# Altium schematic symbol library wr_switch.SCHLIB: 234 symbols (part 1 of 4)
Pins are listed as number, name and electrical type; pins without a type are passive.

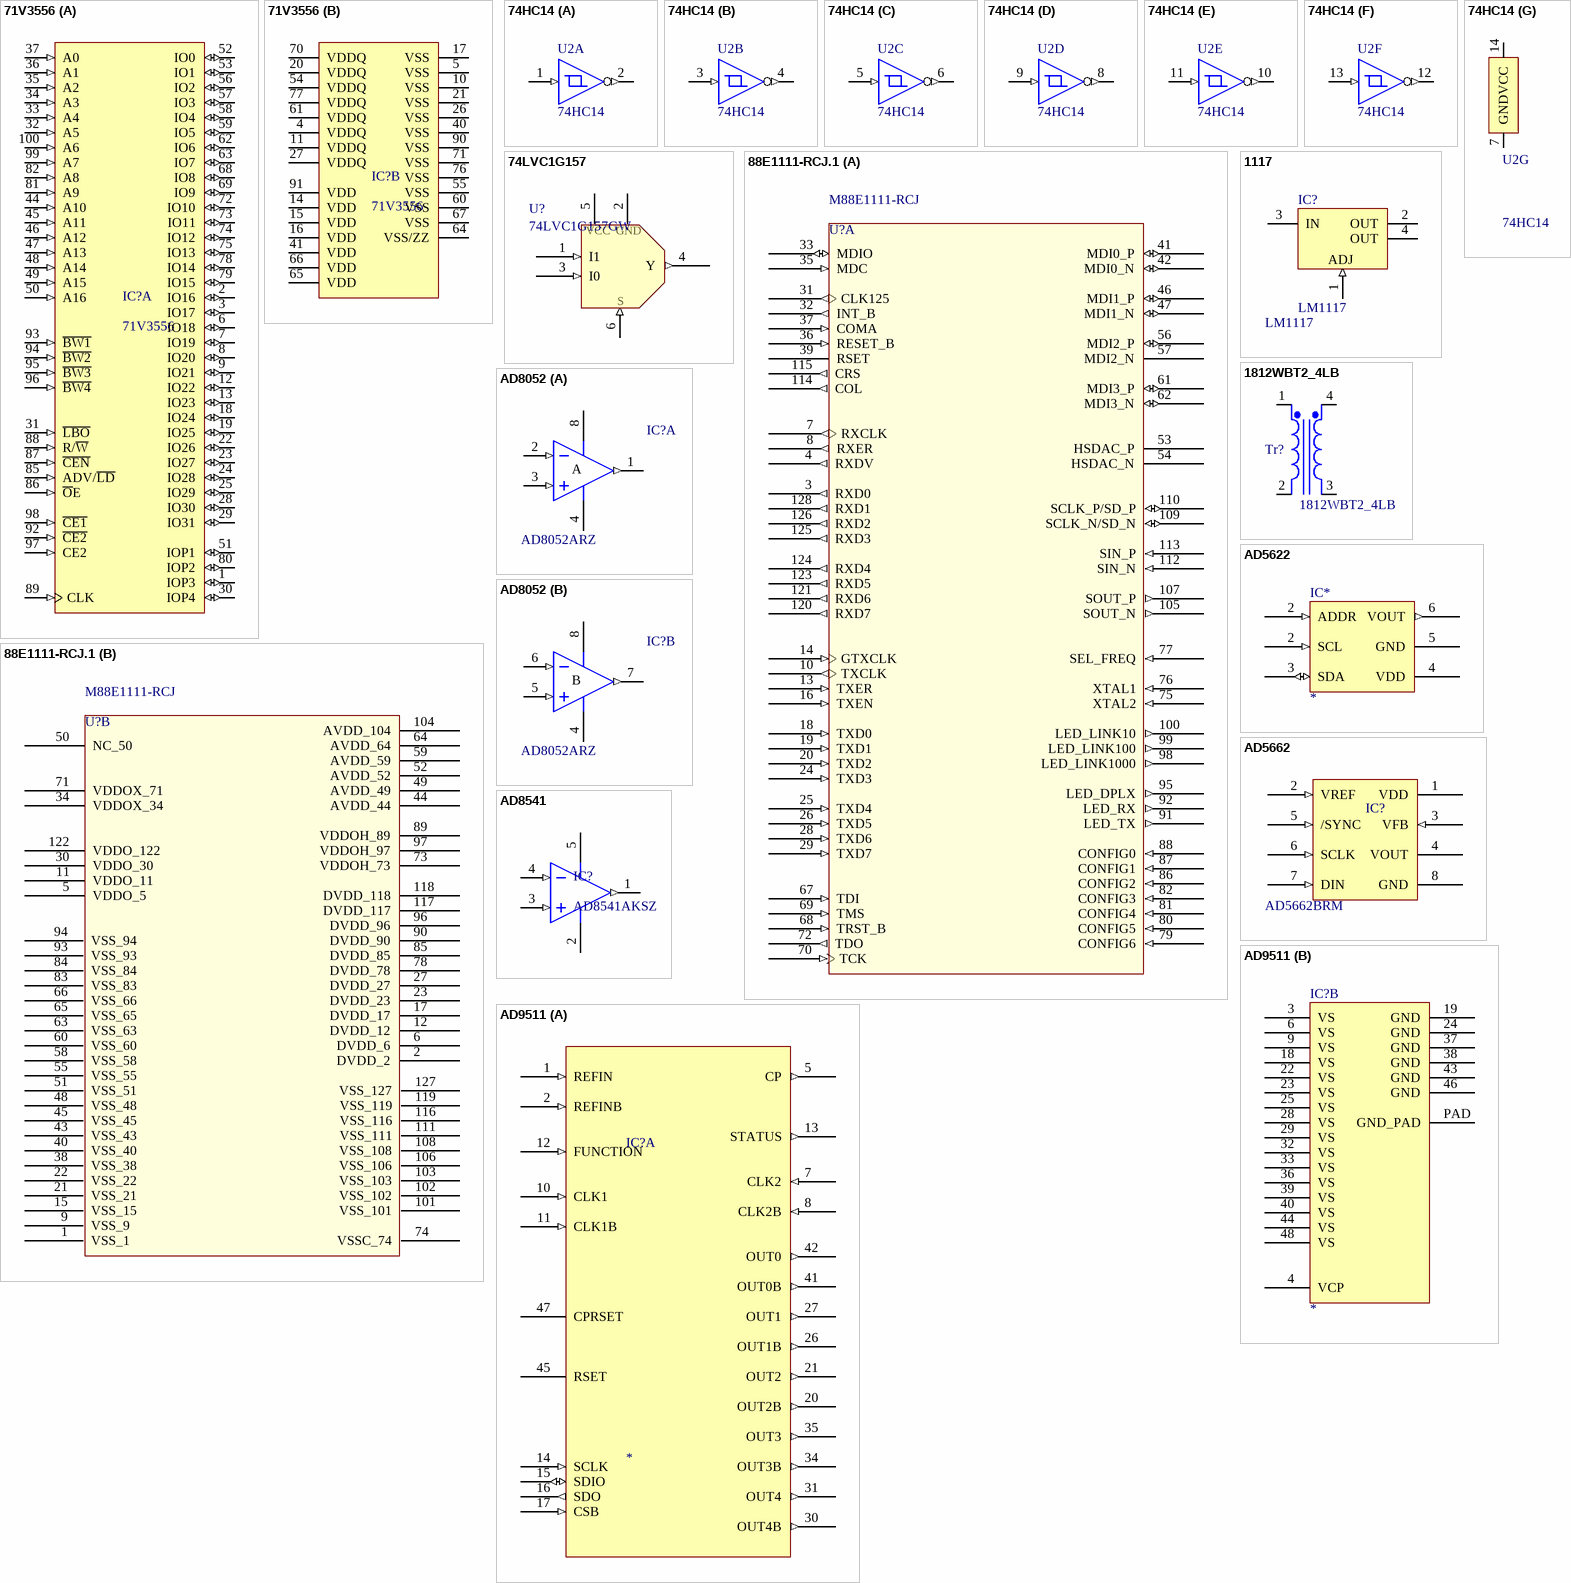
[diagram p0: symbols 71V3556 to AD9511]

## 71V3556
designator IC?
4.5 Mbit ZBT SRAM; RefId: 800-1843-1-ND; Value: IDT71V3556S166PFG8; Supplier: Digikey
footprint TQFP100A101
part A pins: 1 IOP3 (io), 2 IO16 (io), 3 IO17 (io), 6 IO18 (io), 7 IO19 (io), 8 IO20 (io), 9 IO21 (io), 12 IO22 (io), 13 IO23 (io), 18 IO24 (io), 19 IO25 (io), 22 IO26 (io), 23 IO27 (io), 24 IO28 (io), 25 IO29 (io), 28 IO30 (io), 29 IO31 (io), 30 IOP4 (io), 31 ~{LBO} (in), 32 A5 (in), 33 A4 (in), 34 A3 (in), 35 A2 (in), 36 A1 (in), 37 A0 (in), 44 A10 (in), 45 A11 (in), 46 A12 (in), 47 A13 (in), 48 A14 (in), 49 A15 (in), 50 A16 (in), 51 IOP1 (io), 52 IO0 (io), 53 IO1 (io), 56 IO2 (io), 57 IO3 (io), 58 IO4 (io), 59 IO5 (io), 62 IO6 (io), 63 IO7 (io), 68 IO8 (io), 69 IO9 (io), 72 IO10 (io), 73 IO11 (io), 74 IO12 (io), 75 IO13 (io), 78 IO14 (io), 79 IO15 (io), 80 IOP2 (io), 81 A9 (in), 82 A8 (in), 85 ADV/~{LD} (in), 86 ~{O}E (in), 87 ~{CEN} (in), 88 R/~{W} (in), 89 CLK (in), 92 ~{CE2} (in), 93 ~{BW1} (in), 94 ~{BW2} (in), 95 ~{BW3} (in), 96 ~{BW4} (in), 97 CE2 (in), 98 ~{CE1} (in), 99 A7 (in), 100 A6 (in)
part B pins: 4 VDDQ (power), 5 VSS (power), 10 VSS (power), 11 VDDQ (power), 14 VDD (power), 15 VDD (power), 16 VDD (power), 17 VSS (power), 20 VDDQ (power), 21 VSS (power), 26 VSS (power), 27 VDDQ (power), 40 VSS (power), 41 VDD (power), 54 VDDQ (power), 55 VSS (power), 60 VSS (power), 61 VDDQ (power), 64 VSS/ZZ (power), 65 VDD (power), 66 VDD (power), 67 VSS (power), 70 VDDQ (power), 71 VSS (power), 76 VSS (power), 77 VDDQ (power), 90 VSS (power), 91 VDD (power)

## 74HC14
designator U2
Hex Schmitt-Trigger Inverters; Manufacturer1: Texas Instruments; Manufacturer1 PN: SN74HC14D; Distributor1 PN: 296-1194-5-ND; Distributor1: Digikey
footprint DIP-14
footprint SOIC127P600X175-14N (SOIC 14, Pitch 1.27mm - Body 4x8.75mm, IPC Medium Density)
part A pins: 1 (in), 2 (out)
part B pins: 3 (in), 4 (out)
part C pins: 5 (in), 6 (out)
part D pins: 8 (out), 9 (in)
part E pins: 10 (out), 11 (in)
part F pins: 12 (out), 13 (in)
part G pins: 7 GND (power), 14 VCC (power)
2 alternate drawings of the same symbol

## 74LVC1G157
designator U?, comment 74LVC1G157GW
Single 2-input multiplexer; Manufacturer1: NXP Semiconductors; Distributor1_PN: 568-3008-1-ND; Distributor1: Digikey; Manufacturer1_PN: 74LVC1G157GW
footprint SOT65P210X110-6N (SOT363, SC70-6, SOT, 0.65mm Pitch, 6 pin, 1.25mm W X 2.00mm L X 1.10mm H, IPC Medium Density)
pins: 1 I1 (in), 2 GND (power), 3 I0 (in), 4 Y (out), 5 VCC (power), 6 S (in)

## 88E1111-RCJ.1
designator U?, comment M88E1111-RCJ
Integrated 10/100/1000 Ultra Gigabit Ethernet Transceiver; Manufacturer1: Marvell; Manufacturer1 PN: M88E1111-RCJ
footprint QFP50P1720X2320X340-128N (QFP,0.50mm Pitch, Rect.; 128 pin, 20.00mm L X 14.00mm W X 3.40mm H body, IPC Medium Density)
part A pins: 3 RXD0 (out), 4 RXDV (out), 7 RXCLK (out), 8 RXER (out), 10 TXCLK (out), 13 TXER (in), 14 GTXCLK (in), 16 TXEN (in), 18 TXD0 (in), 19 TXD1 (in), 20 TXD2 (in), 24 TXD3 (in), 25 TXD4 (in), 26 TXD5 (in), 28 TXD6 (in), 29 TXD7 (in), 31 CLK125 (out), 32 INT_B (out), 33 MDIO (io), 35 MDC (in), 36 RESET_B (in), 37 COMA (in), 39 RSET, 41 MDI0_P (io), 42 MDI0_N (io), 46 MDI1_P (io), 47 MDI1_N (io), 53 HSDAC_P, 54 HSDAC_N, 56 MDI2_P (io), 57 MDI2_N, 61 MDI3_P (io), 62 MDI3_N (io), 67 TDI (in), 68 TRST_B (in), 69 TMS (in), 70 TCK (in), 72 TDO (out), 75 XTAL2 (in), 76 XTAL1 (in), 77 SEL_FREQ (in), 79 CONFIG6 (in), 80 CONFIG5 (in), 81 CONFIG4 (in), 82 CONFIG3 (in), 86 CONFIG2 (in), 87 CONFIG1 (in), 88 CONFIG0 (in), 91 LED_TX (out), 92 LED_RX (out), 95 LED_DPLX (out), 98 LED_LINK1000 (out), 99 LED_LINK100 (out), 100 LED_LINK10 (out), 105 SOUT_N (out), 107 SOUT_P (out), 109 SCLK_N/SD_N (io), 110 SCLK_P/SD_P (io), 112 SIN_N (in), 113 SIN_P (in), 114 COL (out), 115 CRS (out), 120 RXD7 (out), 121 RXD6 (out), 123 RXD5 (out), 124 RXD4 (out), 125 RXD3 (out), 126 RXD2 (out), 128 RXD1 (out)
part B pins: 1 VSS_1, 2 DVDD_2, 5 VDDO_5, 6 DVDD_6, 9 VSS_9, 11 VDDO_11, 12 DVDD_12, 15 VSS_15, 17 DVDD_17, 21 VSS_21, 22 VSS_22, 23 DVDD_23, 27 DVDD_27, 30 VDDO_30, 34 VDDOX_34, 38 VSS_38, 40 VSS_40, 43 VSS_43, 44 AVDD_44, 45 VSS_45, 48 VSS_48, 49 AVDD_49, 50 NC_50, 51 VSS_51, 52 AVDD_52, 55 VSS_55, 58 VSS_58, 59 AVDD_59, 60 VSS_60, 63 VSS_63, 64 AVDD_64, 65 VSS_65, 66 VSS_66, 71 VDDOX_71, 73 VDDOH_73, 74 VSSC_74, 78 DVDD_78, 83 VSS_83, 84 VSS_84, 85 DVDD_85, 89 VDDOH_89, 90 DVDD_90, 93 VSS_93, 94 VSS_94, 96 DVDD_96, 97 VDDOH_97, 101 VSS_101, 102 VSS_102, 103 VSS_103, 104 AVDD_104, 106 VSS_106, 108 VSS_108, 111 VSS_111, 116 VSS_116, 117 DVDD_117, 118 DVDD_118, 119 VSS_119, 122 VDDO_122, 127 VSS_127

## 1117
designator IC?, comment LM1117
Three-Terminal Adjustable Output Positive Voltage Regulator; Package Information: Latest Revision: 1997; Note: Heatsink surface connected to Pin 2; Code - JEDEC: TO-262-AA; Published: 15-Apr-2002; Datasheet: Latest Revision: 1996; Package Reference: 221A-06; Publisher: Altium Limited; Value: LM1117
footprint 221A-06 (TO, Thru-Hole, Vertical, Heatsink Mounted; 3 In-Line Leads; Pitch 2.54 mm)
pins: 1 ADJ (in), 2 OUT (power), 3 IN (power), 4 OUT (power)

## 1812WBT2_4LB
designator Tr?
SMT Mini WideBand Transformer 2:1, 11-200 MHz; Manufacturer: Coilcraft; Published: 8-Jun-2000; LatestRevisionDate: 17-Jul-2002; LatestRevisionNote: Re-released for DXP Platform.; Publisher: Altium Limited; Value: 1812WBT2_4LB
footprint Model Name (Footprint not found)
footprint 1812WBT
pins: 1 Pri+, 2 Pri-, 3 Sec-, 4 Sec+

## AD5622
designator IC*
Analog Devices 12-bit 1.6 MSPS DAC V/out I2C
pins: 2 ADDR (in), 2 SCL (in), 3 SDA (io), 4 VDD (power), 5 GND (power), 6 VOUT (out)

## AD5662
designator IC?, comment value AD5662BRM  (hidden comment: AD5662B)
Analog Devices 16-bit DAC w/SPI interface, ext ref; RefId: 1117908; Supplier: Farnell
footprint TSOP65P490-8AN (TSOP, 8-Leads, Body 3x3mm, Pitch 0.65mm, IPC Medium Density)
footprint SOT23-8 (SSOP; 8 Leads; Body Width 1.6 mm; Pitch 0.65 mm)
pins: 1 VDD (power), 2 VREF (in), 3 VFB (in), 4 VOUT (power), 5 /SYNC (in), 6 SCLK (in), 7 DIN (in), 8 GND (power)

## AD8052
designator IC?  value AD8052ARZ  (hidden comment: AD8052)
Low Cost, High-Speed Rail-to-Rail Amplifier; Package Information: Latest Revision: 1997; RefId: 9425616; Published: 8-Jun-2000; Revision: 17-Jul-2002: Re-released for DXP Platform.; Datasheet: Latest Revision: REV. A 1999; Package Reference: RM-08; Publisher: Altium Limited; Supplier: Farnell
footprint SO-G8/P1.53
pins on every part: 4 V- (power), 8 V+ (power)
part A pins: 1 OUT (out), 2 IN- (in), 3 IN+ (in)
part B pins: 5 IN+ (in), 6 IN- (in), 7 OUT (out)
part A text: A
part B text: B

## AD8541
designator IC?, comment AD8541AKSZ
Analog Devices general purpose low-voltage R2R CMOS opamp; Value: AD8541AKSZ; Distributor1: Digikey; Distributor1 PN: AD8541AKSZ-REEL7CT-ND
footprint SOT65P210X110-5N (SOT353, SC70-5, SOT, 0.65mm Pitch, 5 pin, 1.25mm W X 2.00mm L X 1.10mm H, IPC Medium Density)
pins: 1 OUT (out), 2 V- (power), 3 IN+ (in), 4 IN- (in), 5 V+ (power)

## AD9511
designator IC?
PLL chip
part A pins: 1 REFIN (in), 2 REFINB (in), 5 CP (out), 7 CLK2 (in), 8 CLK2B (in), 10 CLK1 (in), 11 CLK1B (in), 12 FUNCTION (in), 13 STATUS (out), 14 SCLK (in), 15 SDIO (io), 16 SDO (out), 17 CSB (in), 20 OUT2B (out), 21 OUT2 (out), 26 OUT1B (out), 27 OUT1 (out), 30 OUT4B (out), 31 OUT4 (out), 34 OUT3B (out), 35 OUT3 (out), 41 OUT0B (out), 42 OUT0 (out), 45 RSET, 47 CPRSET
part B pins: 3 VS (power), 4 VCP (power), 6 VS (power), 9 VS (power), 18 VS (power), 19 GND (power), 22 VS (power), 23 VS (power), 24 GND (power), 25 VS (power), 28 VS (power), 29 VS (power), 32 VS (power), 33 VS (power), 36 VS (power), 37 GND (power), 38 GND (power), 39 VS (power), 40 VS (power), 43 GND (power), 44 VS (power), 46 GND (power), 48 VS (power), PAD GND_PAD (power)

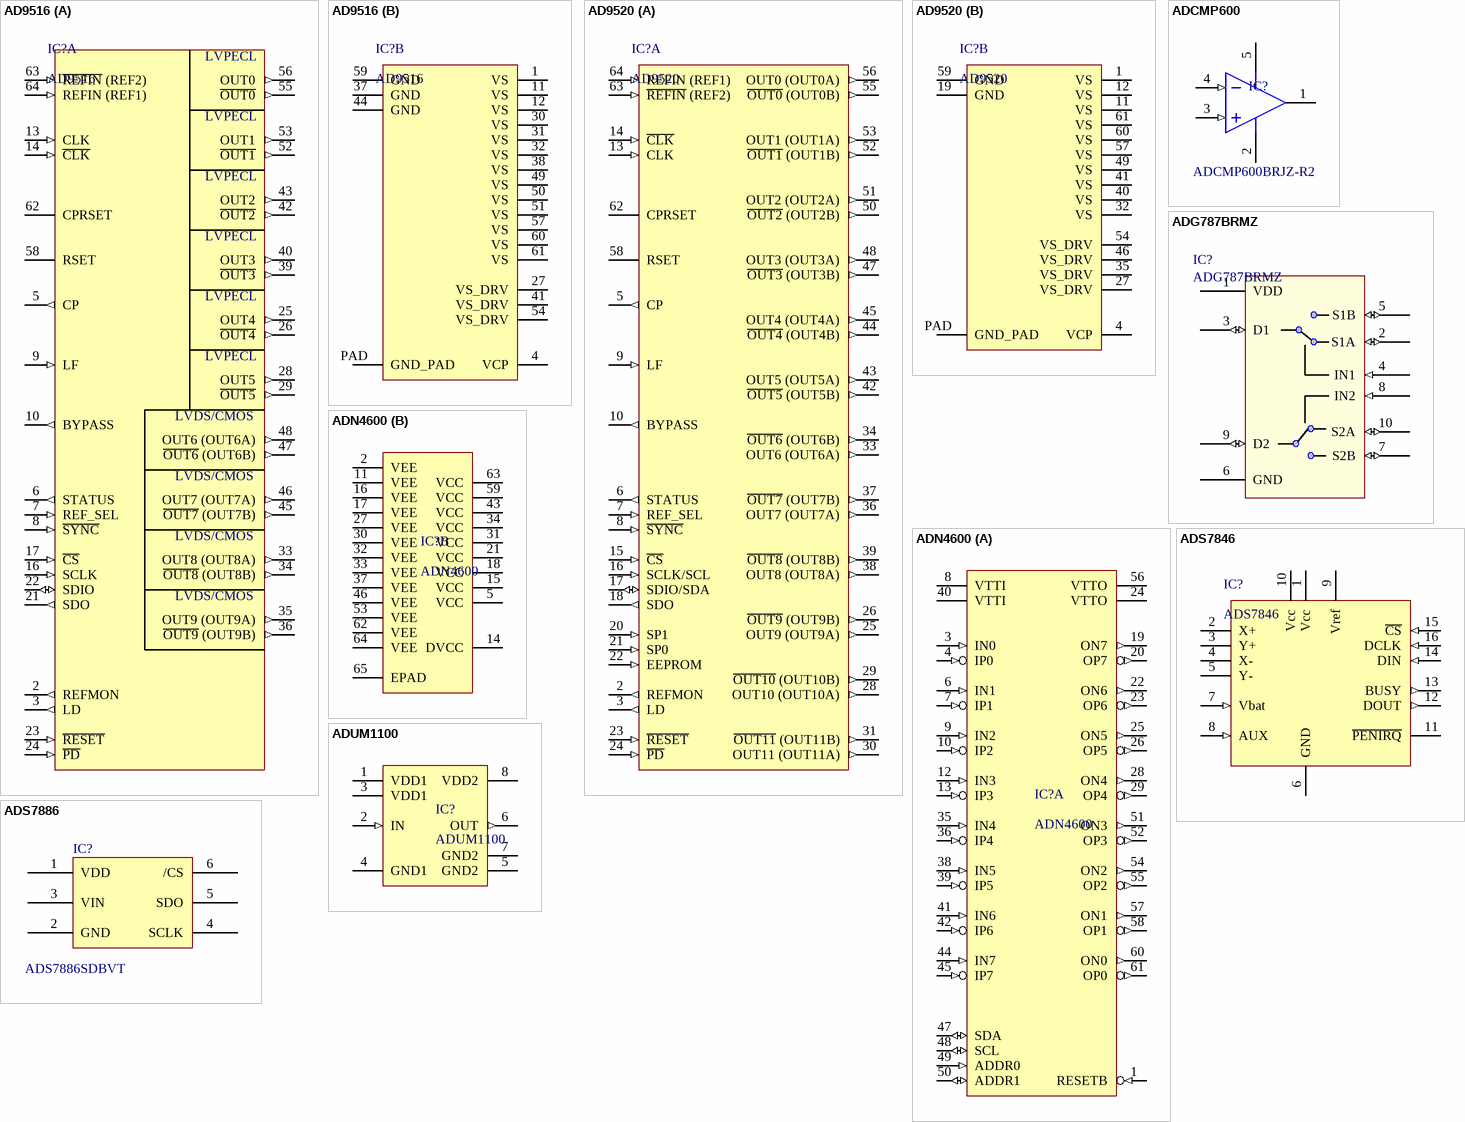
[diagram p1: symbols AD9516 to ADUM1100]

## AD9516
designator IC?
PLL with clock fanout
footprint QFN50P900X900X100-64M (QFN, 64-Leads, Body 9.1x9.1mm (max), Pitch 0.50mm, IPC Low Density)
part A pins: 2 REFMON (out), 3 LD (out), 5 CP (out), 6 STATUS (out), 7 REF_SEL (in), 8 ~{SYNC} (in), 9 LF (in), 10 BYPASS (out), 13 CLK (in), 14 ~{CLK} (in), 16 SCLK (in), 17 ~{CS} (in), 21 SDO (out), 22 SDIO (io), 23 ~{RESET} (in), 24 ~{PD} (in), 25 OUT4 (out), 26 ~{OUT4} (out), 28 OUT5 (out), 29 ~{OUT5} (out), 33 OUT8 (OUT8A) (out), 34 ~{OUT8} (OUT8B) (out), 35 OUT9 (OUT9A) (out), 36 ~{OUT9} (OUT9B) (out), 39 ~{OUT3} (out), 40 OUT3 (out), 42 ~{OUT2} (out), 43 OUT2 (out), 45 ~{OUT7} (OUT7B) (out), 46 OUT7 (OUT7A) (out), 47 ~{OUT6} (OUT6B) (out), 48 OUT6 (OUT6A) (out), 52 ~{OUT1} (out), 53 OUT1 (out), 55 ~{OUT0} (out), 56 OUT0 (out), 58 RSET, 62 CPRSET, 63 ~{REFIN} (REF2) (in), 64 REFIN (REF1) (in)
part B pins: 1 VS (power), 4 VCP (power), 11 VS (power), 12 VS (power), 27 VS_DRV (power), 30 VS (power), 31 VS (power), 32 VS (power), 37 GND (power), 38 VS (power), 41 VS_DRV (power), 44 GND (power), 49 VS (power), 50 VS (power), 51 VS (power), 54 VS_DRV (power), 57 VS (power), 59 GND (power), 60 VS (power), 61 VS (power), PAD GND_PAD (power)
part A text: LVPECL; LVDS/CMOS

## AD9520
designator IC?
PLL with clock fanout
footprint QFN50P900X900X100-64M (QFN, 64-Leads, Body 9.1x9.1mm (max), Pitch 0.50mm, IPC Low Density)
part A pins: 2 REFMON (out), 3 LD (out), 5 CP (out), 6 STATUS (out), 7 REF_SEL (in), 8 ~{SYNC} (in), 9 LF (in), 10 BYPASS (out), 13 CLK (in), 14 ~{CLK} (in), 15 ~{CS} (in), 16 SCLK/SCL (in), 17 SDIO/SDA (io), 18 SDO (out), 20 SP1 (in), 21 SP0 (in), 22 EEPROM (in), 23 ~{RESET} (in), 24 ~{PD} (in), 25 OUT9 (OUT9A) (out), 26 ~{OUT9} (OUT9B) (out), 28 OUT10 (OUT10A) (out), 29 ~{OUT10} (OUT10B) (out), 30 OUT11 (OUT11A) (out), 31 ~{OUT11} (OUT11B) (out), 33 OUT6 (OUT6A) (out), 34 ~{OUT6} (OUT6B) (out), 36 OUT7 (OUT7A) (out), 37 ~{OUT7} (OUT7B) (out), 38 OUT8 (OUT8A) (out), 39 ~{OUT8} (OUT8B) (out), 42 ~{OUT5} (OUT5B) (out), 43 OUT5 (OUT5A) (out), 44 ~{OUT4} (OUT4B) (out), 45 OUT4 (OUT4A) (out), 47 ~{OUT3} (OUT3B) (out), 48 OUT3 (OUT3A) (out), 50 ~{OUT2} (OUT2B) (out), 51 OUT2 (OUT2A) (out), 52 ~{OUT1} (OUT1B) (out), 53 OUT1 (OUT1A) (out), 55 ~{OUT0} (OUT0B) (out), 56 OUT0 (OUT0A) (out), 58 RSET, 62 CPRSET, 63 ~{REFIN} (REF2) (in), 64 REFIN (REF1) (in)
part B pins: 1 VS (power), 4 VCP (power), 11 VS (power), 12 VS (power), 19 GND (power), 27 VS_DRV (power), 32 VS (power), 35 VS_DRV (power), 40 VS (power), 41 VS (power), 46 VS_DRV (power), 49 VS (power), 54 VS_DRV (power), 57 VS (power), 59 GND (power), 60 VS (power), 61 VS (power), PAD GND_PAD (power)

## ADCMP600
designator IC?, comment ADCMP600BRJZ-R2
Analog Devices fast comparator; RefId: 1441023; Supplier: Farnell; Value: ADCMP600BRJZ-R2
footprint SOT23-5AL (SOT23, 5-Leads, Body 2.9x1.6mm, Pitch 0.95mm, Lead Span 2.8mm, IPC High Density)
pins: 1 Q (oc), 2 VEE (power), 3 VP (in), 4 VN (in), 5 VCC/VCCO (power)

## ADG787BRMZ
designator IC?
Dual 2:1 MUX/DEMUX USB1.1 Switch; Manufacturer1: Analog Devices; Manufacturer1_PN: ADG787BRMZ; Distributor1: Digikey; Distributor1_PN: ADG787BRMZ-ND
footprint SOP50P490X109-10N (SOP, 0.50mm pitch; 10 pin, 3.00mm W X 3.00mm L X 1.09mm H body, IPC Medium Density)
pins: 1 VDD (power), 2 S1A (io), 3 D1 (io), 4 IN1 (in), 5 S1B (io), 6 GND (power), 7 S2B (io), 8 IN2 (in), 9 D2 (io), 10 S2A (io)

## ADN4600
designator IC?
Gigabit 8x8 crosspoint switch
footprint LFCSP64_ADN4600
part A pins: 1 RESETB (in), 3 IN0 (in), 4 IP0 (in), 6 IN1 (in), 7 IP1 (in), 8 VTTI (power), 9 IN2 (in), 10 IP2 (in), 12 IN3 (in), 13 IP3 (in), 19 ON7 (out), 20 OP7 (out), 22 ON6 (out), 23 OP6 (out), 24 VTTO (power), 25 ON5 (out), 26 OP5 (out), 28 ON4 (out), 29 OP4 (out), 35 IN4 (in), 36 IP4 (in), 38 IN5 (in), 39 IP5 (in), 40 VTTI (power), 41 IN6 (in), 42 IP6 (in), 44 IN7 (in), 45 IP7 (in), 47 SDA (io), 48 SCL (io), 49 ADDR0 (in), 50 ADDR1 (io), 51 ON3 (out), 52 OP3 (out), 54 ON2 (out), 55 OP2 (out), 56 VTTO (power), 57 ON1 (out), 58 OP1 (out), 60 ON0 (out), 61 OP0 (out)
part B pins: 2 VEE (power), 5 VCC (power), 11 VEE (power), 14 DVCC (power), 15 VCC (power), 16 VEE (power), 17 VEE (power), 18 VCC (power), 21 VCC (power), 27 VEE (power), 30 VEE (power), 31 VCC (power), 32 VEE (power), 33 VEE (power), 34 VCC (power), 37 VEE (power), 43 VCC (power), 46 VEE (power), 53 VEE (power), 59 VCC (power), 62 VEE (power), 63 VCC (power), 64 VEE (power), 65 EPAD (power)

## ADS7846
designator IC?
Resistive touchscreen controller
footprint TSOP65P640-16AM (TSOP, 16-Leads, Body 5x4.4mm, Pitch 0.65mm, IPC Low Density)
pins: 1 Vcc (power), 2 X+, 3 Y+, 4 X-, 5 Y-, 6 GND (power), 7 Vbat (in), 8 AUX (in), 9 Vref (power), 10 Vcc (power), 11 ~{PENIRQ} (oc), 12 DOUT (out), 13 BUSY (out), 14 DIN (in), 15 ~{CS} (in), 16 DCLK (in)

## ADS7886
designator IC?  value ADS7886SDBVT  (hidden comment: ADS7886)
TI 1 MSPS serial ADC; RefId: 1575257; Supplier: Farnell
footprint SOT23A-6L (SOT23, 6-Leads, Body 2.9x1.7mm, Pitch 0.95mm, Lead Span 2.8mm, IPC High Density)
pins: 1 VDD, 2 GND, 3 VIN, 4 SCLK, 5 SDO, 6 /CS

## ADUM1100
designator IC?
iCoupler
footprint SOIC127P600-8AL (SOIC, 8-Leads, Body 4.9x3.9mm, Pitch 1.27mm, IPC High Density)
pins: 1 VDD1 (power), 2 IN (in), 3 VDD1 (power), 4 GND1 (power), 5 GND2 (power), 6 OUT (out), 7 GND2 (power), 8 VDD2 (power)

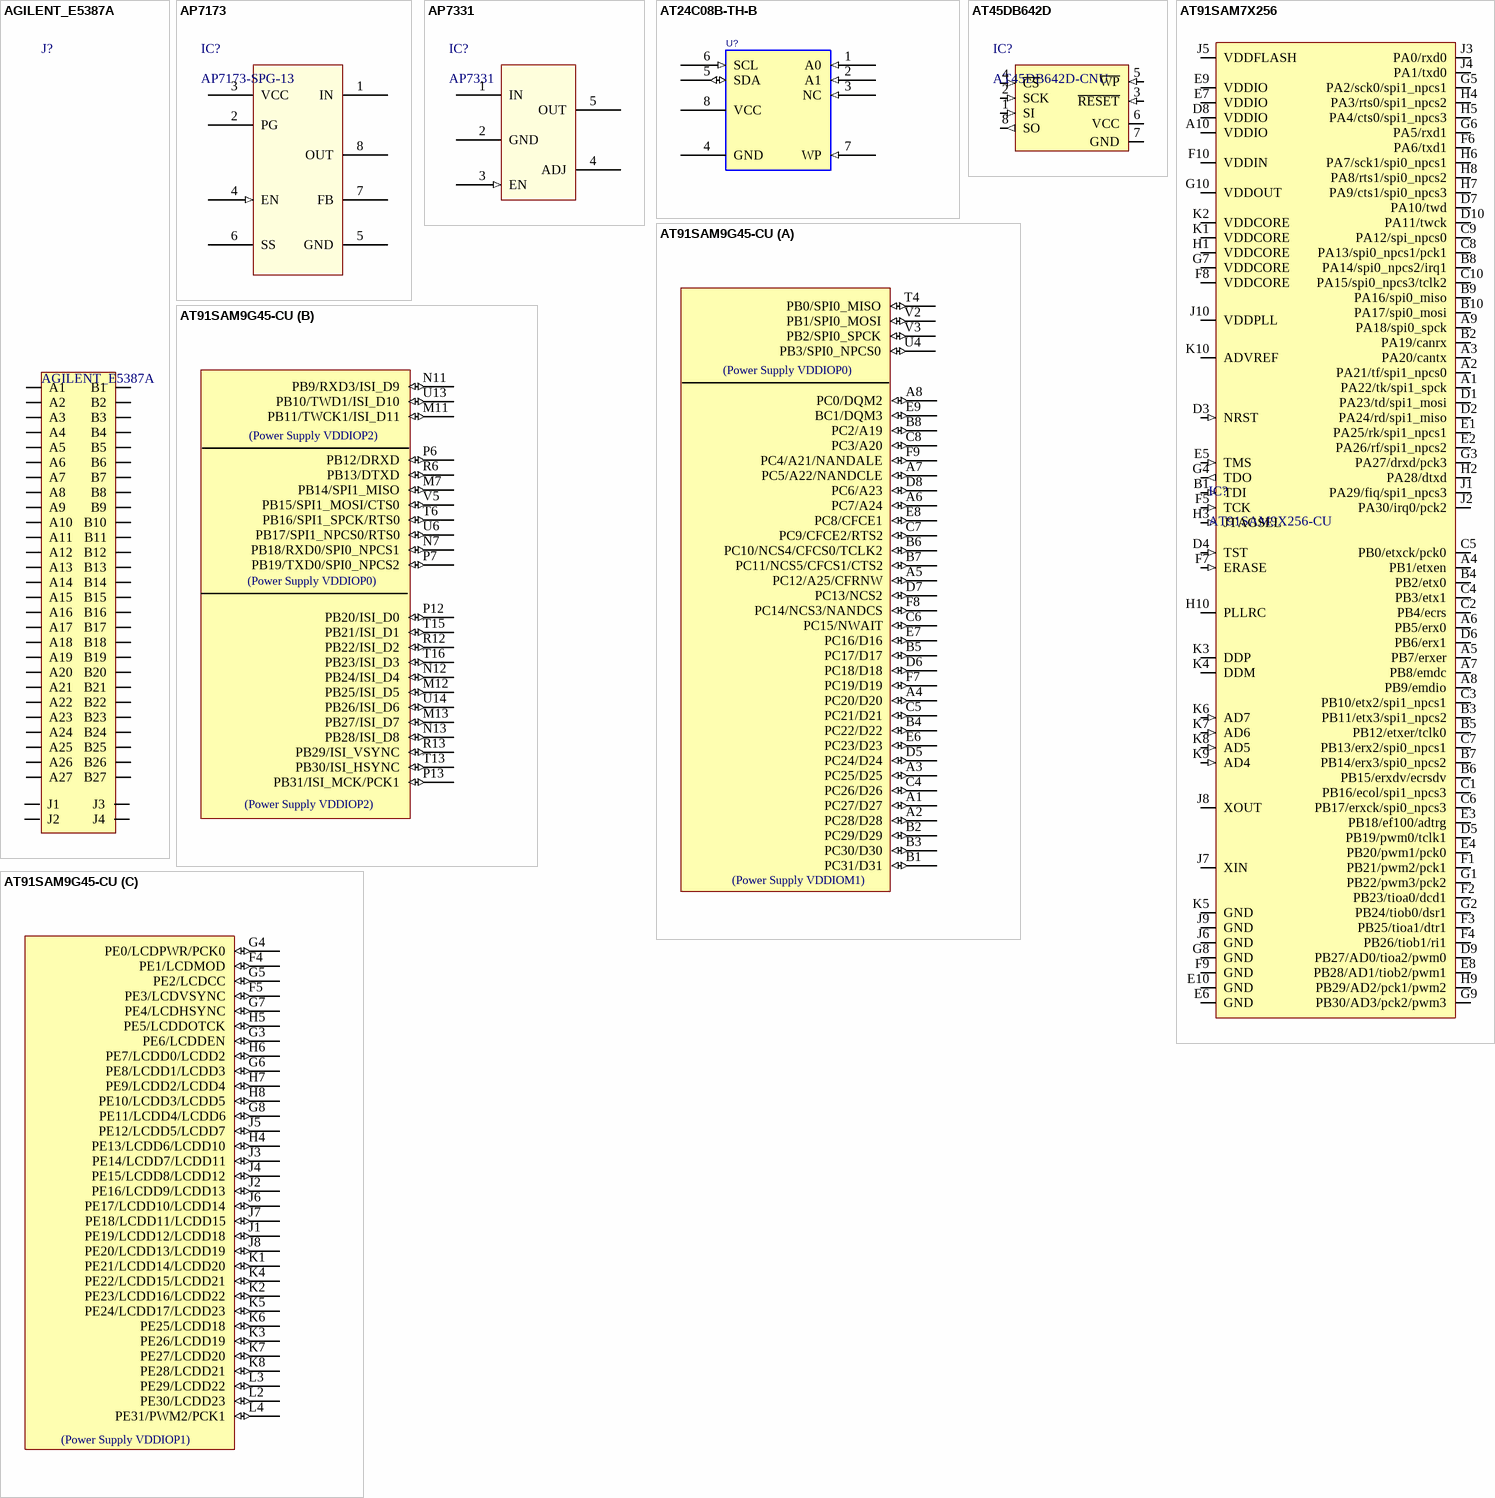
[diagram p2: symbols AGILENT_E5387A to AT91SAM9G45-CU]

## AGILENT_E5387A
designator J?
34-Channel Agilent E5387A Connector
footprint Agilent E5387A (34-channel)
pins: A1, A2, A3, A4, A5, A6, A7, A8, A9, A10, A11, A12, A13, A14, A15, A16, A17, A18, A19, A20, A21, A22, A23, A24, A25, A26, A27, B1, B2, B3, B4, B5, B6, B7, B8, B9, B10, B11, B12, B13, B14, B15, B16, B17, B18, B19, B20, B21, B22, B23, B24, B25, B26, B27, J1, J2, J3, J4
2 alternate drawings of the same symbol

## AP7173
designator IC?, comment AP7173-SPG-13
1.5A Low Dropout Linera Regulator; Value: AP7173-SPG-13; Distributor1 PN: AP7173-SPG-13DICT-ND; Distributor1: Digikey
footprint SOIC127P600-8AL-ThermalPad (SOIC, 8-Leads, Body 4.9x3.9mm, Pitch 1.27mm, IPC High Density)
pins: 1 IN (power), 2 PG (oc), 3 VCC (power), 4 EN (in), 5 GND (power), 6 SS, 7 FB, 8 OUT (power)

## AP7331
designator IC?
300mA, Low Quiescent Current, Fast Transient Low Dropout Liner Regulator
footprint SOT23-5AL (SOT23, 5-Leads, Body 2.9x1.6mm, Pitch 0.95mm, Lead Span 2.8mm, IPC High Density)
pins: 1 IN (power), 2 GND (power), 3 EN (in), 4 ADJ, 5 OUT (power)

## AT24C08B-TH-B
designator U?
Two-Wire 8KB Serial EEPROM; Manufacturer1: Atmel; Manufacturer1 PN: AT24C08B-TH-B; Distributor1: Digikey; Distributor1 PN: AT24C08B-TH-B-ND
footprint SOP65P640X120-8N (SOP, 0.65mm pitch; 8 pin, 4.40mm W X 3.00mm L X 1.20mm H body, IPC Medium Density)
pins: 1 A0 (in), 2 A1 (in), 3 NC (in), 4 GND (power), 5 SDA (io), 6 SCL (in), 7 WP (in), 8 VCC (power)

## AT45DB642D
designator IC?, comment AT45DB642D-CNU
64-megabit 2.7V, Dual-Interface DataFlash; Value: AT45DB642D-CNU; Distributor1 PN: AT45DB642D-CNU-ND; Distributor1: Digikey; Case: CASON
footprint 8CN3 (Double Row QFN, 8Leads, Body 6,1x8,1mm (max), Pitch 1,27mm, IPC Medium Density)
pins: 1 SI (in), 2 SCK (in), 3 ~{RESET} (in), 4 ~{CS} (in), 5 ~{WP} (in), 6 VCC (power), 7 GND (power), 8 SO (out)

## AT91SAM7X256
designator IC?, comment AT91SAM9X256-CU
Atmel ARM7 microcontroller with 256kB flash; RefId: Mouser/556-A91SAM7X256CU
footprint TFBGA100x10
pins: A1 PA22/tk/spi1_spck (io), A2 PA21/tf/spi1_npcs0 (io), A3 PA20/cantx (io), A4 PB1/etxen (io), A5 PB7/erxer (io), A6 PB5/erx0 (io), A7 PB8/emdc (io), A8 PB9/emdio (io), A9 PA18/spi0_spck (io), A10 VDDIO (power), B1 TDI (in), B2 PA19/canrx (io), B3 PB11/etx3/spi1_npcs2 (io), B4 PB2/etx0 (io), B5 PB12/etxer/tclk0 (io), B6 PB15/erxdv/ecrsdv (io), B7 PB14/erx3/spi0_npcs2 (io), B8 PA14/spi0_npcs2/irq1 (io), B9 PA16/spi0_miso (io), B10 PA17/spi0_mosi (io), C1 PB16/ecol/spi1_npcs3 (io), C2 PB4/ecrs (io), C3 PB10/etx2/spi1_npcs1 (io), C4 PB3/etx1 (io), C5 PB0/etxck/pck0 (io), C6 PB17/erxck/spi0_npcs3 (io), C7 PB13/erx2/spi0_npcs1 (io), C8 PA13/spi0_npcs1/pck1 (io), C9 PA12/spi_npcs0 (io), C10 PA15/spi0_npcs3/tclk2 (io), D1 PA23/td/spi1_mosi (io), D2 PA24/rd/spi1_miso (io), D3 NRST (in), D4 TST (in), D5 PB19/pwm0/tclk1 (io), D6 PB6/erx1 (io), D7 PA10/twd (io), D8 VDDIO (power), D9 PB27/AD0/tioa2/pwm0 (io), D10 PA11/twck (io), E1 PA25/rk/spi1_npcs1 (io), E2 PA26/rf/spi1_npcs2 (io), E3 PB18/ef100/adtrg (io), E4 PB20/pwm1/pck0 (io), E5 TMS (in), E6 GND (power), E7 VDDIO (power), E8 PB28/AD1/tiob2/pwm1 (io), E9 VDDIO (power), E10 GND (power), F1 PB21/pwm2/pck1 (io), F2 PB23/tioa0/dcd1 (io), F3 PB25/tioa1/dtr1 (io), F4 PB26/tiob1/ri1 (io), F5 TCK (in), F6 PA6/txd1 (io), F7 ERASE (in), F8 VDDCORE (power), F9 GND (power), F10 VDDIN (power), G1 PB22/pwm3/pck2 (io), G2 PB24/tiob0/dsr1 (io), G3 PA27/drxd/pck3 (io), G4 TDO (out), G5 PA2/sck0/spi1_npcs1 (io), G6 PA5/rxd1 (io), G7 VDDCORE (power), G8 GND (power), G9 PB30/AD3/pck2/pwm3 (io), G10 VDDOUT (power), H1 VDDCORE (power), H2 PA28/dtxd (io), H3 JTAGSEL (in), H4 PA3/rts0/spi1_npcs2 (io), H5 PA4/cts0/spi1_npcs3 (io), H6 PA7/sck1/spi0_npcs1 (io), H7 PA9/cts1/spi0_npcs3 (io), H8 PA8/rts1/spi0_npcs2 (io), H9 PB29/AD2/pck1/pwm2 (io), H10 PLLRC, J1 PA29/fiq/spi1_npcs3 (io), J2 PA30/irq0/pck2 (io), J3 PA0/rxd0 (io), J4 PA1/txd0 (io), J5 VDDFLASH (power), J6 GND (power), J7 XIN, J8 XOUT, J9 GND (power), J10 VDDPLL (power), K1 VDDCORE (power), K2 VDDCORE (power), K3 DDP (io), K4 DDM (io), K5 GND (power), K6 AD7 (in), K7 AD6 (in), K8 AD5 (in), K9 AD4 (in), K10 ADVREF (power)

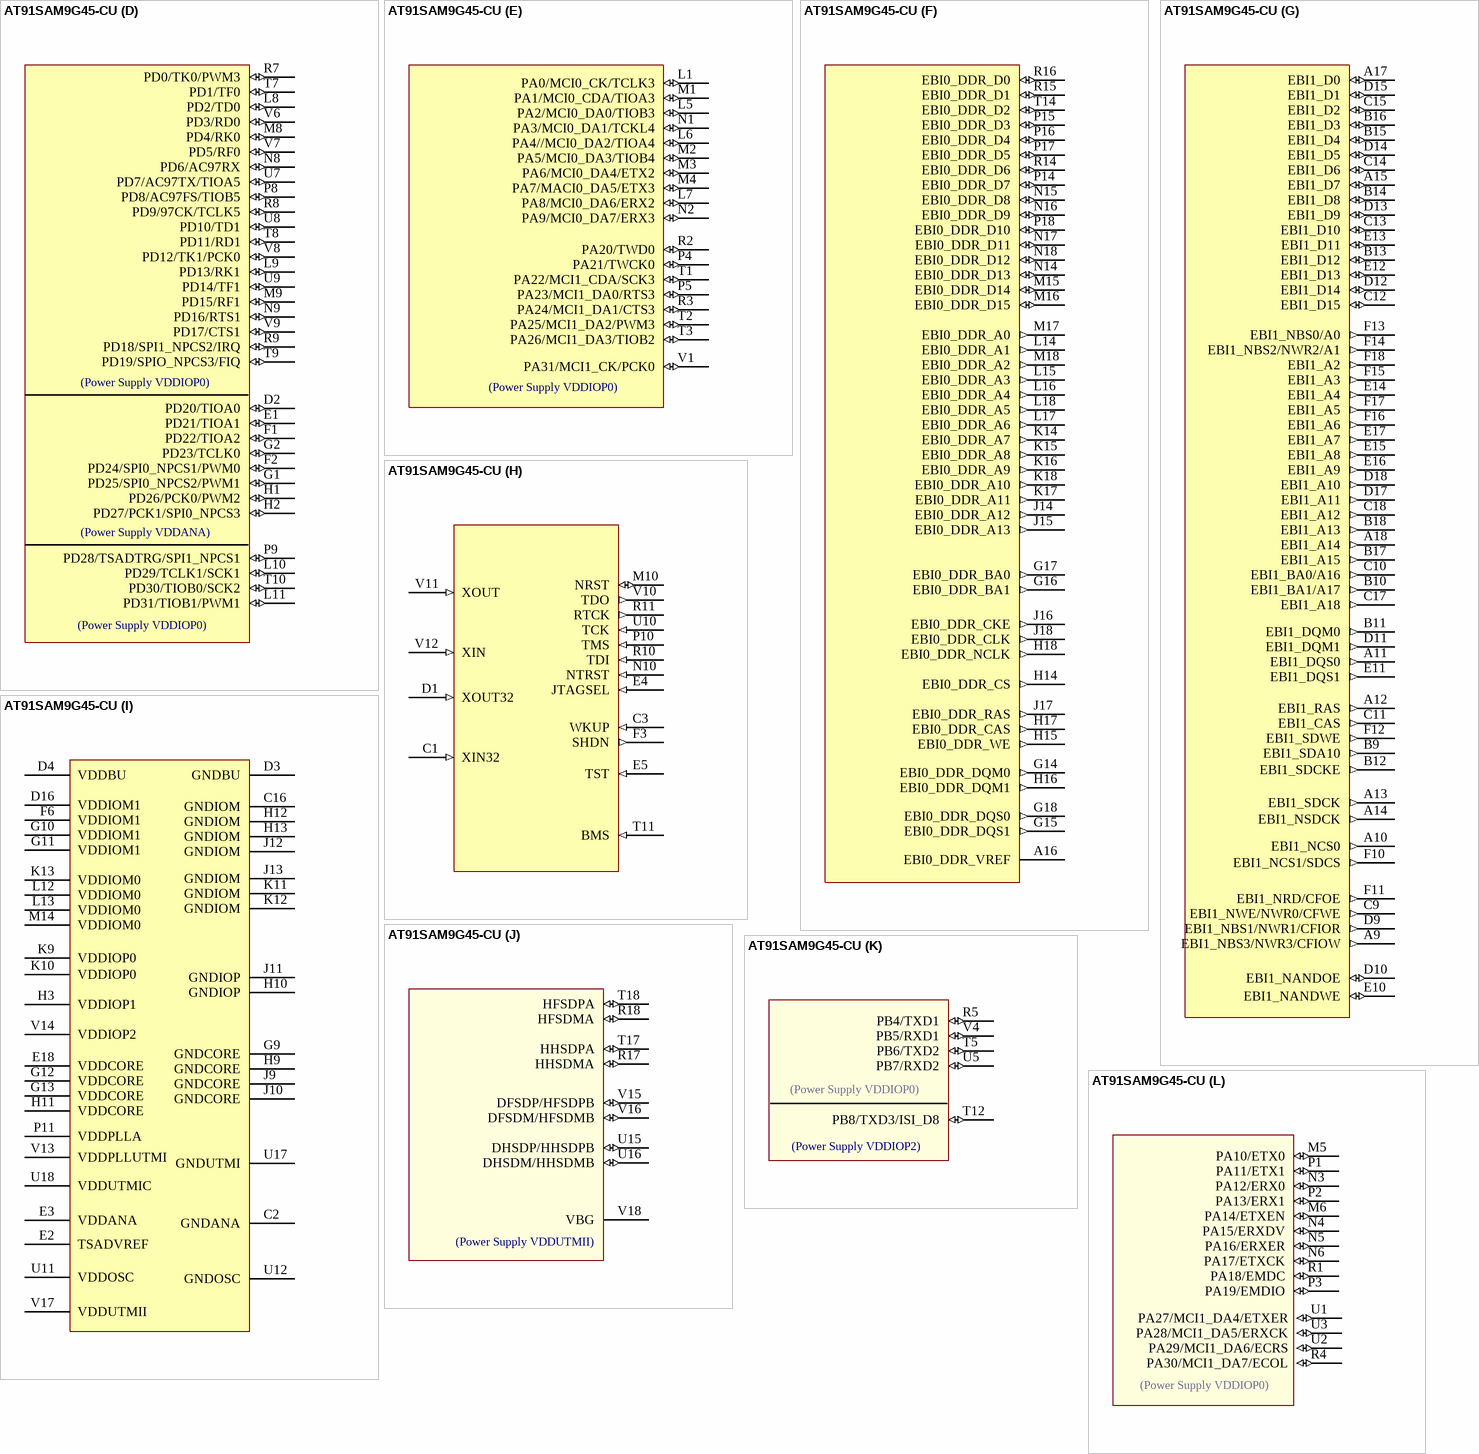
[diagram p3: symbol AT91SAM9G45-CU]

## AT91SAM9G45-CU
designator IC?
Atmel 400MHz ARM926 MCU; Value: AT91SAM9G45-CU; Distributor1 PN: AT91SAM9G45-CU-ND; Distributor1: Digikey
footprint TFBGA324
part A pins: A1 PC27/D27 (io), A2 PC28/D28 (io), A3 PC25/D25 (io), A4 PC20/D20 (io), A5 PC12/A25/CFRNW (io), A6 PC7/A24 (io), A7 PC5/A22/NANDCLE (io), A8 PC0/DQM2 (io), B1 PC31/D31 (io), B2 PC29/D29 (io), B3 PC30/D30 (io), B4 PC22/D22 (io), B5 PC17/D17 (io), B6 PC10/NCS4/CFCS0/TCLK2 (io), B7 PC11/NCS5/CFCS1/CTS2 (io), B8 PC2/A19 (io), C4 PC26/D26 (io), C5 PC21/D21 (io), C6 PC15/NWAIT (io), C7 PC9/CFCE2/RTS2 (io), C8 PC3/A20 (io), D5 PC24/D24 (io), D6 PC18/D18 (io), D7 PC13/NCS2 (io), D8 PC6/A23 (io), E6 PC23/D23 (io), E7 PC16/D16 (io), E8 PC8/CFCE1 (io), E9 BC1/DQM3 (io), F7 PC19/D19 (io), F8 PC14/NCS3/NANDCS (io), F9 PC4/A21/NANDALE (io), T4 PB0/SPI0_MISO (io), U4 PB3/SPI0_NPCS0 (io), V2 PB1/SPI0_MOSI (io), V3 PB2/SPI0_SPCK (io)
part B pins: M7 PB14/SPI1_MISO (io), M11 PB11/TWCK1/ISI_D11 (io), M12 PB25/ISI_D5 (io), M13 PB27/ISI_D7 (io), N7 PB18/RXD0/SPI0_NPCS1 (io), N11 PB9/RXD3/ISI_D9 (io), N12 PB24/ISI_D4 (io), N13 PB28/ISI_D8 (io), P6 PB12/DRXD (io), P7 PB19/TXD0/SPI0_NPCS2 (io), P12 PB20/ISI_D0 (io), P13 PB31/ISI_MCK/PCK1 (io), R6 PB13/DTXD (io), R12 PB22/ISI_D2 (io), R13 PB29/ISI_VSYNC (io), T6 PB16/SPI1_SPCK/RTS0 (io), T13 PB30/ISI_HSYNC (io), T15 PB21/ISI_D1 (io), T16 PB23/ISI_D3 (io), U6 PB17/SPI1_NPCS0/RTS0 (io), U13 PB10/TWD1/ISI_D10 (io), U14 PB26/ISI_D6 (io), V5 PB15/SPI1_MOSI/CTS0 (io)
part C pins: F4 PE1/LCDMOD (io), F5 PE3/LCDVSYNC (io), G3 PE6/LCDDEN (io), G4 PE0/LCDPWR/PCK0 (io), G5 PE2/LCDCC (io), G6 PE8/LCDD1/LCDD3 (io), G7 PE4/LCDHSYNC (io), G8 PE11/LCDD4/LCDD6 (io), H4 PE13/LCDD6/LCDD10 (io), H5 PE5/LCDDOTCK (io), H6 PE7/LCDD0/LCDD2 (io), H7 PE9/LCDD2/LCDD4 (io), H8 PE10/LCDD3/LCDD5 (io), J1 PE19/LCDD12/LCDD18 (io), J2 PE16/LCDD9/LCDD13 (io), J3 PE14/LCDD7/LCDD11 (io), J4 PE15/LCDD8/LCDD12 (io), J5 PE12/LCDD5/LCDD7 (io), J6 PE17/LCDD10/LCDD14 (io), J7 PE18/LCDD11/LCDD15 (io), J8 PE20/LCDD13/LCDD19 (io), K1 PE21/LCDD14/LCDD20 (io), K2 PE23/LCDD16/LCDD22 (io), K3 PE26/LCDD19 (io), K4 PE22/LCDD15/LCDD21 (io), K5 PE24/LCDD17/LCDD23 (io), K6 PE25/LCDD18 (io), K7 PE27/LCDD20 (io), K8 PE28/LCDD21 (io), L2 PE30/LCDD23 (io), L3 PE29/LCDD22 (io), L4 PE31/PWM2/PCK1 (io)
part D pins: D2 PD20/TIOA0 (io), E1 PD21/TIOA1 (io), F1 PD22/TIOA2 (io), F2 PD24/SPI0_NPCS1/PWM0 (io), G1 PD25/SPI0_NPCS2/PWM1 (io), G2 PD23/TCLK0 (io), H1 PD26/PCK0/PWM2 (io), H2 PD27/PCK1/SPI0_NPCS3 (io), L8 PD2/TD0 (io), L9 PD13/RK1 (io), L10 PD29/TCLK1/SCK1 (io), L11 PD31/TIOB1/PWM1 (io), M8 PD4/RK0 (io), M9 PD15/RF1 (io), N8 PD6/AC97RX (io), N9 PD16/RTS1 (io), P8 PD8/AC97FS/TIOB5 (io), P9 PD28/TSADTRG/SPI1_NPCS1 (io), R7 PD0/TK0/PWM3 (io), R8 PD9/97CK/TCLK5 (io), R9 PD18/SPI1_NPCS2/IRQ (io), T7 PD1/TF0 (io), T8 PD11/RD1 (io), T9 PD19/SPIO_NPCS3/FIQ (io), T10 PD30/TIOB0/SCK2 (io), U7 PD7/AC97TX/TIOA5 (io), U8 PD10/TD1 (io), U9 PD14/TF1 (io), V6 PD3/RD0 (io), V7 PD5/RF0 (io), V8 PD12/TK1/PCK0 (io), V9 PD17/CTS1 (io)
part E pins: L1 PA0/MCI0_CK/TCLK3 (io), L5 PA2/MCI0_DA0/TIOB3 (io), L6 PA4//MCI0_DA2/TIOA4 (io), L7 PA8/MCI0_DA6/ERX2 (io), M1 PA1/MCI0_CDA/TIOA3 (io), M2 PA5/MCI0_DA3/TIOB4 (io), M3 PA6/MCI0_DA4/ETX2 (io), M4 PA7/MACI0_DA5/ETX3 (io), N1 PA3/MCI0_DA1/TCKL4 (io), N2 PA9/MCI0_DA7/ERX3 (io), P4 PA21/TWCK0 (io), P5 PA23/MCI1_DA0/RTS3 (io), R2 PA20/TWD0 (io), R3 PA24/MCI1_DA1/CTS3 (io), T1 PA22/MCI1_CDA/SCK3 (io), T2 PA25/MCI1_DA2/PWM3 (io), T3 PA26/MCI1_DA3/TIOB2 (io), V1 PA31/MCI1_CK/PCK0 (io)
part F pins: A16 EBI0_DDR_VREF, G14 EBI0_DDR_DQM0 (out), G15 EBI0_DDR_DQS1 (out), G16 EBI0_DDR_BA1 (out), G17 EBI0_DDR_BA0 (out), G18 EBI0_DDR_DQS0 (out), H14 EBI0_DDR_CS (out), H15 EBI0_DDR_WE (out), H16 EBI0_DDR_DQM1 (out), H17 EBI0_DDR_CAS (out), H18 EBI0_DDR_NCLK (out), J14 EBI0_DDR_A12 (out), J15 EBI0_DDR_A13 (out), J16 EBI0_DDR_CKE (out), J17 EBI0_DDR_RAS (out), J18 EBI0_DDR_CLK (out), K14 EBI0_DDR_A7 (out), K15 EBI0_DDR_A8 (out), K16 EBI0_DDR_A9 (out), K17 EBI0_DDR_A11 (out), K18 EBI0_DDR_A10 (out), L14 EBI0_DDR_A1 (out), L15 EBI0_DDR_A3 (out), L16 EBI0_DDR_A4 (out), L17 EBI0_DDR_A6 (out), L18 EBI0_DDR_A5 (out), M15 EBI0_DDR_D14 (io), M16 EBI0_DDR_D15 (io), M17 EBI0_DDR_A0 (out), M18 EBI0_DDR_A2 (out), N14 EBI0_DDR_D13 (io), N15 EBI0_DDR_D8 (io), N16 EBI0_DDR_D9 (io), N17 EBI0_DDR_D11 (io), N18 EBI0_DDR_D12 (io), P14 EBI0_DDR_D7 (io), P15 EBI0_DDR_D3 (io), P16 EBI0_DDR_D4 (io), P17 EBI0_DDR_D5 (io), P18 EBI0_DDR_D10 (io), R14 EBI0_DDR_D6 (io), R15 EBI0_DDR_D1 (io), R16 EBI0_DDR_D0 (io), T14 EBI0_DDR_D2 (io)
part G pins: A9 EBI1_NBS3/NWR3/CFIOW (out), A10 EBI1_NCS0 (out), A11 EBI1_DQS0 (out), A12 EBI1_RAS (out), A13 EBI1_SDCK (out), A14 EBI1_NSDCK (out), A15 EBI1_D7 (io), A17 EBI1_D0 (io), A18 EBI1_A14 (out), B9 EBI1_SDA10 (out), B10 EBI1_BA1/A17 (out), B11 EBI1_DQM0 (out), B12 EBI1_SDCKE (out), B13 EBI1_D12 (io), B14 EBI1_D8 (io), B15 EBI1_D4 (io), B16 EBI1_D3 (io), B17 EBI1_A15 (out), B18 EBI1_A13 (out), C9 EBI1_NWE/NWR0/CFWE (out), C10 EBI1_BA0/A16 (out), C11 EBI1_CAS (out), C12 EBI1_D15 (io), C13 EBI1_D10 (io), C14 EBI1_D6 (io), C15 EBI1_D2 (io), C17 EBI1_A18 (out), C18 EBI1_A12 (out), D9 EBI1_NBS1/NWR1/CFIOR (out), D10 EBI1_NANDOE (io), D11 EBI1_DQM1 (out), D12 EBI1_D14 (io), D13 EBI1_D9 (io), D14 EBI1_D5 (io), D15 EBI1_D1 (io), D17 EBI1_A11 (out), D18 EBI1_A10 (out), E10 EBI1_NANDWE (io), E11 EBI1_DQS1 (out), E12 EBI1_D13 (io), E13 EBI1_D11 (io), E14 EBI1_A4 (out), E15 EBI1_A8 (out), E16 EBI1_A9 (out), E17 EBI1_A7 (out), F10 EBI1_NCS1/SDCS (out), F11 EBI1_NRD/CFOE (out), F12 EBI1_SDWE (out), F13 EBI1_NBS0/A0 (out), F14 EBI1_NBS2/NWR2/A1 (out), F15 EBI1_A3 (out), F16 EBI1_A6 (out), F17 EBI1_A5 (out), F18 EBI1_A2 (out)
part H pins: C1 XIN32 (in), C3 WKUP (in), D1 XOUT32 (in), E4 JTAGSEL (in), E5 TST (in), F3 SHDN (out), M10 NRST (io), N10 NTRST (in), P10 TMS (in), R10 TDI (in), R11 RTCK (out), T11 BMS (in), U10 TCK (in), V10 TDO (out), V11 XOUT (in), V12 XIN (in)
part I pins: C2 GNDANA (power), C16 GNDIOM (power), D3 GNDBU (power), D4 VDDBU (power), D16 VDDIOM1 (power), E2 TSADVREF (power), E3 VDDANA (power), E18 VDDCORE (power), F6 VDDIOM1 (power), G9 GNDCORE (power), G10 VDDIOM1 (power), G11 VDDIOM1 (power), G12 VDDCORE (power), G13 VDDCORE (power), H3 VDDIOP1 (power), H9 GNDCORE (power), H10 GNDIOP (power), H11 VDDCORE (power), H12 GNDIOM (power), H13 GNDIOM (power), J9 GNDCORE (power), J10 GNDCORE (power), J11 GNDIOP (power), J12 GNDIOM (power), J13 GNDIOM (power), K9 VDDIOP0 (power), K10 VDDIOP0 (power), K11 GNDIOM (power), K12 GNDIOM (power), K13 VDDIOM0 (power), L12 VDDIOM0 (power), L13 VDDIOM0 (power), M14 VDDIOM0 (power), P11 VDDPLLA (power), U11 VDDOSC (power), U12 GNDOSC (power), U17 GNDUTMI (power), U18 VDDUTMIC (power), V13 VDDPLLUTMI (power), V14 VDDIOP2 (power), V17 VDDUTMII (power)
part J pins: R17 HHSDMA (io), R18 HFSDMA (io), T17 HHSDPA (io), T18 HFSDPA (io), U15 DHSDP/HHSDPB (io), U16 DHSDM/HHSDMB (io), V15 DFSDP/HFSDPB (io), V16 DFSDM/HFSDMB (io), V18 VBG
part K pins: R5 PB4/TXD1 (io), T5 PB6/TXD2 (io), T12 PB8/TXD3/ISI_D8 (io), U5 PB7/RXD2 (io), V4 PB5/RXD1 (io)
part L pins: M5 PA10/ETX0 (io), M6 PA14/ETXEN (io), N3 PA12/ERX0 (io), N4 PA15/ERXDV (io), N5 PA16/ERXER (io), N6 PA17/ETXCK (io), P1 PA11/ETX1 (io), P2 PA13/ERX1 (io), P3 PA19/EMDIO (io), R1 PA18/EMDC (io), R4 PA30/MCI1_DA7/ECOL (io), U1 PA27/MCI1_DA4/ETXER (io), U2 PA29/MCI1_DA6/ECRS (io), U3 PA28/MCI1_DA5/ERXCK (io)
part A text: (Power Supply VDDIOP0); (Power Supply VDDIOM1)
part B text: (Power Supply VDDIOP2); (Power Supply VDDIOP0)
part C text: (Power Supply VDDIOP1)
part D text: (Power Supply VDDIOP0); (Power Supply VDDANA)
part E text: (Power Supply VDDIOP0)
part J text: (Power Supply VDDUTMII)
part K text: (Power Supply VDDIOP0); (Power Supply VDDIOP2)
part L text: (Power Supply VDDIOP0)

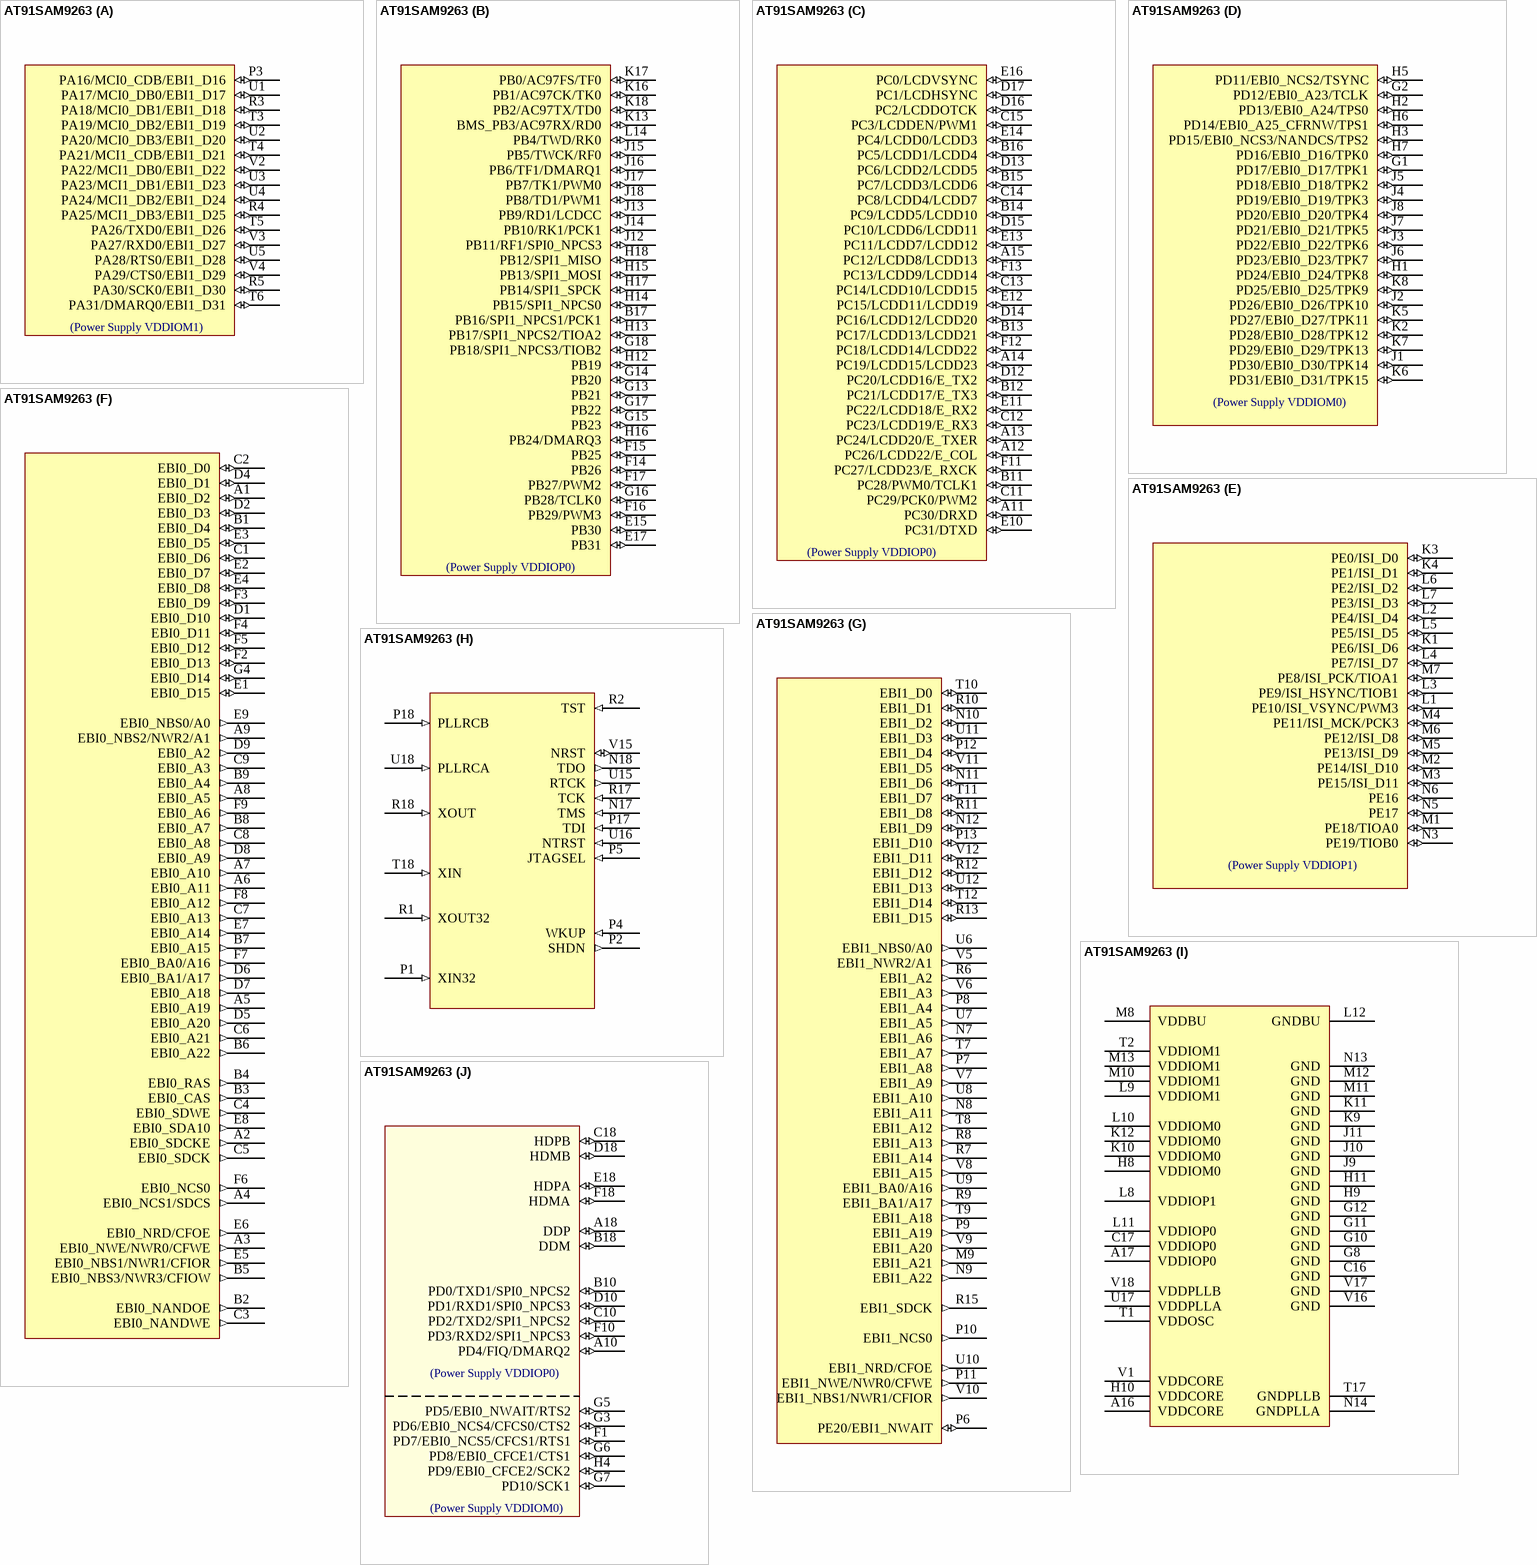
[diagram p4: symbol AT91SAM9263]

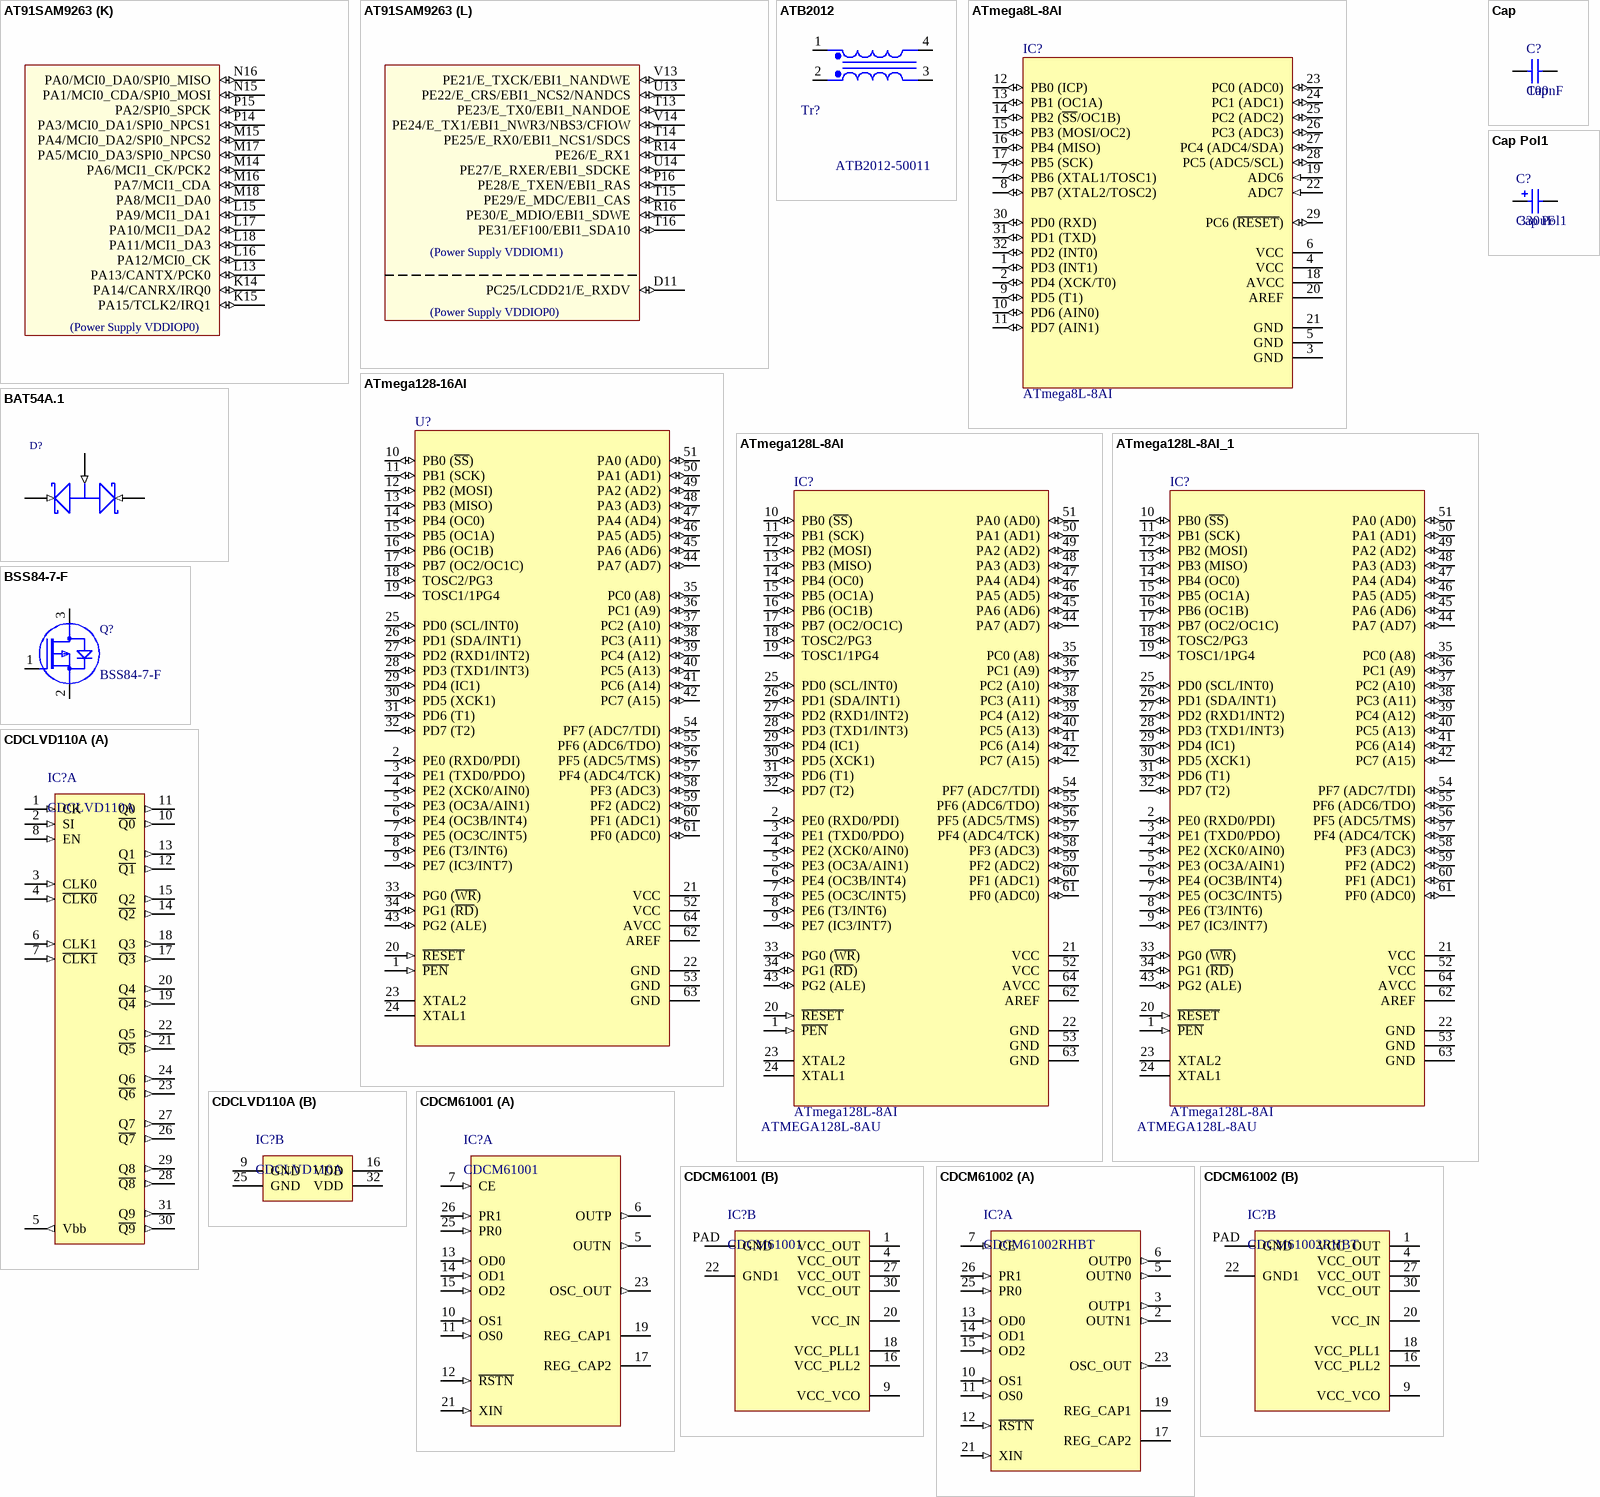
[diagram p5: symbols AT91SAM9263 to CDCM61002]

## AT91SAM9263
designator IC?, comment AT91SAM9263-CU
Atmel ARM926 MCU; Supplier: EBV; RefId: AT91SAM9263-CU; Value: AT91SAM9263-CU
footprint TFBGA324
part A pins: P3 PA16/MCI0_CDB/EBI1_D16 (io), R3 PA18/MCI0_DB1/EBI1_D18 (io), R4 PA25/MCI1_DB3/EBI1_D25 (io), R5 PA30/SCK0/EBI1_D30 (io), T3 PA19/MCI0_DB2/EBI1_D19 (io), T4 PA21/MCI1_CDB/EBI1_D21 (io), T5 PA26/TXD0/EBI1_D26 (io), T6 PA31/DMARQ0/EBI1_D31 (io), U1 PA17/MCI0_DB0/EBI1_D17 (io), U2 PA20/MCI0_DB3/EBI1_D20 (io), U3 PA23/MCI1_DB1/EBI1_D23 (io), U4 PA24/MCI1_DB2/EBI1_D24 (io), U5 PA28/RTS0/EBI1_D28 (io), V2 PA22/MCI1_DB0/EBI1_D22 (io), V3 PA27/RXD0/EBI1_D27 (io), V4 PA29/CTS0/EBI1_D29 (io)
part B pins: B17 PB16/SPI1_NPCS1/PCK1 (io), E15 PB30 (io), E17 PB31 (io), F14 PB26 (io), F15 PB25 (io), F16 PB29/PWM3 (io), F17 PB27/PWM2 (io), G13 PB21 (io), G14 PB20 (io), G15 PB23 (io), G16 PB28/TCLK0 (io), G17 PB22 (io), G18 PB18/SPI1_NPCS3/TIOB2 (io), H12 PB19 (io), H13 PB17/SPI1_NPCS2/TIOA2 (io), H14 PB15/SPI1_NPCS0 (io), H15 PB13/SPI1_MOSI (io), H16 PB24/DMARQ3 (io), H17 PB14/SPI1_SPCK (io), H18 PB12/SPI1_MISO (io), J12 PB11/RF1/SPI0_NPCS3 (io), J13 PB9/RD1/LCDCC (io), J14 PB10/RK1/PCK1 (io), J15 PB5/TWCK/RF0 (io), J16 PB6/TF1/DMARQ1 (io), J17 PB7/TK1/PWM0 (io), J18 PB8/TD1/PWM1 (io), K13 BMS_PB3/AC97RX/RD0 (io), K16 PB1/AC97CK/TK0 (io), K17 PB0/AC97FS/TF0 (io), K18 PB2/AC97TX/TD0 (io), L14 PB4/TWD/RK0 (io)
part C pins: A11 PC30/DRXD (io), A12 PC26/LCDD22/E_COL (io), A13 PC24/LCDD20/E_TXER (io), A14 PC19/LCDD15/LCDD23 (io), A15 PC12/LCDD8/LCDD13 (io), B11 PC28/PWM0/TCLK1 (io), B12 PC21/LCDD17/E_TX3 (io), B13 PC17/LCDD13/LCDD21 (io), B14 PC9/LCDD5/LCDD10 (io), B15 PC7/LCDD3/LCDD6 (io), B16 PC5/LCDD1/LCDD4 (io), C11 PC29/PCK0/PWM2 (io), C12 PC23/LCDD19/E_RX3 (io), C13 PC14/LCDD10/LCDD15 (io), C14 PC8/LCDD4/LCDD7 (io), C15 PC3/LCDDEN/PWM1 (io), D12 PC20/LCDD16/E_TX2 (io), D13 PC6/LCDD2/LCDD5 (io), D14 PC16/LCDD12/LCDD20 (io), D15 PC10/LCDD6/LCDD11 (io), D16 PC2/LCDDOTCK (io), D17 PC1/LCDHSYNC (io), E10 PC31/DTXD (io), E11 PC22/LCDD18/E_RX2 (io), E12 PC15/LCDD11/LCDD19 (io), E13 PC11/LCDD7/LCDD12 (io), E14 PC4/LCDD0/LCDD3 (io), E16 PC0/LCDVSYNC (io), F11 PC27/LCDD23/E_RXCK (io), F12 PC18/LCDD14/LCDD22 (io), F13 PC13/LCDD9/LCDD14 (io)
part D pins: G1 PD17/EBI0_D17/TPK1 (io), G2 PD12/EBI0_A23/TCLK (io), H1 PD24/EBI0_D24/TPK8 (io), H2 PD13/EBI0_A24/TPS0 (io), H3 PD15/EBI0_NCS3/NANDCS/TPS2 (io), H5 PD11/EBI0_NCS2/TSYNC (io), H6 PD14/EBI0_A25_CFRNW/TPS1 (io), H7 PD16/EBI0_D16/TPK0 (io), J1 PD30/EBI0_D30/TPK14 (io), J2 PD26/EBI0_D26/TPK10 (io), J3 PD22/EBI0_D22/TPK6 (io), J4 PD19/EBI0_D19/TPK3 (io), J5 PD18/EBI0_D18/TPK2 (io), J6 PD23/EBI0_D23/TPK7 (io), J7 PD21/EBI0_D21/TPK5 (io), J8 PD20/EBI0_D20/TPK4 (io), K2 PD28/EBI0_D28/TPK12 (io), K5 PD27/EBI0_D27/TPK11 (io), K6 PD31/EBI0_D31/TPK15 (io), K7 PD29/EBI0_D29/TPK13 (io), K8 PD25/EBI0_D25/TPK9 (io)
part E pins: K1 PE6/ISI_D6 (io), K3 PE0/ISI_D0 (io), K4 PE1/ISI_D1 (io), L1 PE10/ISI_VSYNC/PWM3 (io), L2 PE4/ISI_D4 (io), L3 PE9/ISI_HSYNC/TIOB1 (io), L4 PE7/ISI_D7 (io), L5 PE5/ISI_D5 (io), L6 PE2/ISI_D2 (io), L7 PE3/ISI_D3 (io), M1 PE18/TIOA0 (io), M2 PE14/ISI_D10 (io), M3 PE15/ISI_D11 (io), M4 PE11/ISI_MCK/PCK3 (io), M5 PE13/ISI_D9 (io), M6 PE12/ISI_D8 (io), M7 PE8/ISI_PCK/TIOA1 (io), N3 PE19/TIOB0 (io), N5 PE17 (io), N6 PE16 (io)
part F pins: A1 EBI0_D2 (io), A2 EBI0_SDCKE (out), A3 EBI0_NWE/NWR0/CFWE (out), A4 EBI0_NCS1/SDCS (out), A5 EBI0_A19 (out), A6 EBI0_A11 (out), A7 EBI0_A10 (out), A8 EBI0_A5 (out), A9 EBI0_NBS2/NWR2/A1 (out), B1 EBI0_D4 (io), B2 EBI0_NANDOE (out), B3 EBI0_CAS (out), B4 EBI0_RAS (out), B5 EBI0_NBS3/NWR3/CFIOW (out), B6 EBI0_A22 (out), B7 EBI0_A15 (out), B8 EBI0_A7 (out), B9 EBI0_A4 (out), C1 EBI0_D6 (io), C2 EBI0_D0 (io), C3 EBI0_NANDWE (out), C4 EBI0_SDWE (out), C5 EBI0_SDCK (out), C6 EBI0_A21 (out), C7 EBI0_A13 (out), C8 EBI0_A8 (out), C9 EBI0_A3 (out), D1 EBI0_D10 (io), D2 EBI0_D3 (io), D4 EBI0_D1 (io), D5 EBI0_A20 (out), D6 EBI0_BA1/A17 (out), D7 EBI0_A18 (out), D8 EBI0_A9 (out), D9 EBI0_A2 (out), E1 EBI0_D15 (io), E2 EBI0_D7 (io), E3 EBI0_D5 (io), E4 EBI0_D8 (io), E5 EBI0_NBS1/NWR1/CFIOR (out), E6 EBI0_NRD/CFOE (out), E7 EBI0_A14 (out), E8 EBI0_SDA10 (out), E9 EBI0_NBS0/A0 (out), F2 EBI0_D13 (io), F3 EBI0_D9 (io), F4 EBI0_D11 (io), F5 EBI0_D12 (io), F6 EBI0_NCS0 (out), F7 EBI0_BA0/A16 (out), F8 EBI0_A12 (out), F9 EBI0_A6 (out), G4 EBI0_D14 (io)
part G pins: M9 EBI1_A21 (out), N7 EBI1_A6 (out), N8 EBI1_A11 (out), N9 EBI1_A22 (out), N10 EBI1_D2 (io), N11 EBI1_D6 (io), N12 EBI1_D9 (io), P6 PE20/EBI1_NWAIT (io), P7 EBI1_A8 (out), P8 EBI1_A4 (out), P9 EBI1_A19 (out), P10 EBI1_NCS0 (out), P11 EBI1_NWE/NWR0/CFWE (out), P12 EBI1_D4 (io), P13 EBI1_D10 (io), R6 EBI1_A2 (out), R7 EBI1_A14 (out), R8 EBI1_A13 (out), R9 EBI1_BA1/A17 (out), R10 EBI1_D1 (io), R11 EBI1_D8 (io), R12 EBI1_D12 (io), R13 EBI1_D15 (io), R15 EBI1_SDCK (out), T7 EBI1_A7 (out), T8 EBI1_A12 (out), T9 EBI1_A18 (out), T10 EBI1_D0 (io), T11 EBI1_D7 (io), T12 EBI1_D14 (io), U6 EBI1_NBS0/A0 (out), U7 EBI1_A5 (out), U8 EBI1_A10 (out), U9 EBI1_BA0/A16 (out), U10 EBI1_NRD/CFOE (out), U11 EBI1_D3 (io), U12 EBI1_D13 (io), V5 EBI1_NWR2/A1 (out), V6 EBI1_A3 (out), V7 EBI1_A9 (out), V8 EBI1_A15 (out), V9 EBI1_A20 (out), V10 EBI1_NBS1/NWR1/CFIOR (out), V11 EBI1_D5 (io), V12 EBI1_D11 (io)
part H pins: N17 TMS (in), N18 TDO (out), P1 XIN32 (in), P2 SHDN (out), P4 WKUP (in), P5 JTAGSEL (in), P17 TDI (in), P18 PLLRCB (in), R1 XOUT32 (in), R2 TST (in), R17 TCK (in), R18 XOUT (in), T18 XIN (in), U15 RTCK (out), U16 NTRST (in), U18 PLLRCA (in), V15 NRST (io)
part I pins: A16 VDDCORE (power), A17 VDDIOP0 (power), C16 GND (power), C17 VDDIOP0 (power), G8 GND (power), G10 GND (power), G11 GND (power), G12 GND (power), H8 VDDIOM0 (power), H9 GND (power), H10 VDDCORE (power), H11 GND (power), J9 GND (power), J10 GND (power), J11 GND (power), K9 GND (power), K10 VDDIOM0 (power), K11 GND (power), K12 VDDIOM0 (power), L8 VDDIOP1 (power), L9 VDDIOM1 (power), L10 VDDIOM0 (power), L11 VDDIOP0 (power), L12 GNDBU (power), M8 VDDBU (power), M10 VDDIOM1 (power), M11 GND (power), M12 GND (power), M13 VDDIOM1 (power), N13 GND (power), N14 GNDPLLA (power), T1 VDDOSC (power), T2 VDDIOM1 (power), T17 GNDPLLB (power), U17 VDDPLLA (power), V1 VDDCORE (power), V16 GND (power), V17 GND (power), V18 VDDPLLB (power)
part J pins: A10 PD4/FIQ/DMARQ2 (io), A18 DDP (io), B10 PD0/TXD1/SPI0_NPCS2 (io), B18 DDM (io), C10 PD2/TXD2/SPI1_NPCS2 (io), C18 HDPB (io), D10 PD1/RXD1/SPI0_NPCS3 (io), D18 HDMB (io), E18 HDPA (io), F1 PD7/EBI0_NCS5/CFCS1/RTS1 (io), F10 PD3/RXD2/SPI1_NPCS3 (io), F18 HDMA (io), G3 PD6/EBI0_NCS4/CFCS0/CTS2 (io), G5 PD5/EBI0_NWAIT/RTS2 (io), G6 PD8/EBI0_CFCE1/CTS1 (io), G7 PD10/SCK1 (io), H4 PD9/EBI0_CFCE2/SCK2 (io)
part K pins: K14 PA14/CANRX/IRQ0 (io), K15 PA15/TCLK2/IRQ1 (io), L13 PA13/CANTX/PCK0 (io), L15 PA9/MCI1_DA1 (io), L16 PA12/MCI0_CK (io), L17 PA10/MCI1_DA2 (io), L18 PA11/MCI1_DA3 (io), M14 PA6/MCI1_CK/PCK2 (io), M15 PA4/MCI0_DA2/SPI0_NPCS2 (io), M16 PA7/MCI1_CDA (io), M17 PA5/MCI0_DA3/SPI0_NPCS0 (io), M18 PA8/MCI1_DA0 (io), N15 PA1/MCI0_CDA/SPI0_MOSI (io), N16 PA0/MCI0_DA0/SPI0_MISO (io), P14 PA3/MCI0_DA1/SPI0_NPCS1 (io), P15 PA2/SPI0_SPCK (io)
part L pins: D11 PC25/LCDD21/E_RXDV (io), P16 PE28/E_TXEN/EBI1_RAS (io), R14 PE26/E_RX1 (io), R16 PE30/E_MDIO/EBI1_SDWE (io), T13 PE23/E_TX0/EBI1_NANDOE (io), T14 PE25/E_RX0/EBI1_NCS1/SDCS (io), T15 PE29/E_MDC/EBI1_CAS (io), T16 PE31/EF100/EBI1_SDA10 (io), U13 PE22/E_CRS/EBI1_NCS2/NANDCS (io), U14 PE27/E_RXER/EBI1_SDCKE (io), V13 PE21/E_TXCK/EBI1_NANDWE (io), V14 PE24/E_TX1/EBI1_NWR3/NBS3/CFIOW (io)
part A text: (Power Supply VDDIOM1)
part B text: (Power Supply VDDIOP0)
part C text: (Power Supply VDDIOP0)
part D text: (Power Supply VDDIOM0)
part E text: (Power Supply VDDIOP1)
part J text: (Power Supply VDDIOP0); (Power Supply VDDIOM0)
part K text: (Power Supply VDDIOP0)
part L text: (Power Supply VDDIOM1); (Power Supply VDDIOP0)

## ATB2012
designator Tr?, comment ATB2012-50011
WideBand Transformer 1:1, 50 Ohm, 50MHz to 860MHz; Manufacturer: TDK; Value: ATB2012-50011; Distributor1 PN: 445-6138-1-ND; Distributor1: Digikey
simulation model IDEALTRANS (Spice Subcircuit)
footprint SMT6P150P (WBC Series Coilcraft Transformer 4.19mmx4.45mm Footprint)
pins: 1 Pri+, 2 Pri-, 3 Sec-, 4 Sec+

## ATmega8L-8AI
designator IC?
8-Bit AVR Microcontroller with 8K Bytes of In-System Programmable Flash Memory; Published: 17-Sep-2003; LatestRevisionDate: 13-Apr-2006; LatestRevisionNote: IPC-7351 Footprint Added.; DatasheetVersion: 2486H-AVR-09/02; PackageVersion: revB, Oct-2001; PackageReference: 32A; Publisher: Altium Limited; PackageDescription: 32-Pin Thin Quad Flat Pack 0.8 mm Pitch; Code_JEDEC: MS-026-ABA; ComponentLink1Description: Manufacturer Link; ComponentLink1URL: http://www.atmel.com; ComponentLink2Description: Datasheet; ComponentLink2URL: http://www.atmel.com/dyn/resources/prod_documents/doc2486.pdf
footprint LQFP32A_L (Thin QFP, 32-Leads, Body 7x7mm, Pitch 0.8mm, IPC High Density)
footprint 32A_L (Thin QFP, 32-Leads, Body 7x7mm, Pitch 0.8mm, IPC High Density)
footprint 32A_M (Thin QFP, 32-Leads, Body 7x7mm, Pitch 0.8mm, IPC Low Density)
3D model ATMEGA8L-32A (32-Pin Thin Quad Flat Pack 0.8 mm Pitch)
pins: 1 PD3 (INT1) (io), 2 PD4 (XCK/T0) (io), 3 GND (power), 4 VCC (power), 5 GND (power), 6 VCC (power), 7 PB6 (XTAL1/TOSC1) (io), 8 PB7 (XTAL2/TOSC2) (io), 9 PD5 (T1) (io), 10 PD6 (AIN0) (io), 11 PD7 (AIN1) (io), 12 PB0 (ICP) (io), 13 PB1 (OC1A) (io), 14 PB2 (~{SS}/OC1B) (io), 15 PB3 (MOSI/OC2) (io), 16 PB4 (MISO) (io), 17 PB5 (SCK) (io), 18 AVCC (power), 19 ADC6 (in), 20 AREF, 21 GND (power), 22 ADC7 (in), 23 PC0 (ADC0) (io), 24 PC1 (ADC1) (io), 25 PC2 (ADC2) (io), 26 PC3 (ADC3) (io), 27 PC4 (ADC4/SDA) (io), 28 PC5 (ADC5/SCL) (io), 29 PC6 (~{RESET}) (io), 30 PD0 (RXD) (io), 31 PD1 (TXD) (io), 32 PD2 (INT0) (io)

## ATmega128-16AI
designator U?
8-Bit AVR Microcontroller with 128K Bytes of In-System Programmable Flash Memory; Published: 17-Sep-2003; LatestRevisionDate: 13-Apr-2006; LatestRevisionNote: IPC-7351 Footprint Added.; DatasheetVersion: 2467G-AVR-09/02; PackageVersion: revB, Oct-2001; PackageReference: 64A; Publisher: Altium Limited; PackageDescription: 64-Pin Thin Quad Flat Pack 0.8 mm Pitch; Code_JEDEC: MS-026-AEB; ComponentLink1Description: Manufacturer Link; ComponentLink1URL: http://www.atmel.com; ComponentLink2Description: Datasheet; ComponentLink2URL: http://www.atmel.com/dyn/resources/prod_documents/doc2467.pdf
footprint 64A_N (Thin QFP, 64-Leads, Body 14x14mm, Pitch 0.8mm, IPC Medium Density)
footprint 64A_L (Thin QFP, 64-Leads, Body 14x14mm, Pitch 0.8mm, IPC High Density)
footprint 64A_M (Thin QFP, 64-Leads, Body 14x14mm, Pitch 0.8mm, IPC Low Density)
3D model ATMEGA128-64A (64-Pin Thin Quad Flat Pack 0.8 mm Pitch)
pins: 1 ~{PEN} (in), 2 PE0 (RXD0/PDI) (io), 3 PE1 (TXD0/PDO) (io), 4 PE2 (XCK0/AIN0) (io), 5 PE3 (OC3A/AIN1) (io), 6 PE4 (OC3B/INT4) (io), 7 PE5 (OC3C/INT5) (io), 8 PE6 (T3/INT6) (io), 9 PE7 (IC3/INT7) (io), 10 PB0 (~{SS}) (io), 11 PB1 (SCK) (io), 12 PB2 (MOSI) (io), 13 PB3 (MISO) (io), 14 PB4 (OC0) (io), 15 PB5 (OC1A) (io), 16 PB6 (OC1B) (io), 17 PB7 (OC2/OC1C) (io), 18 TOSC2/PG3 (io), 19 TOSC1/1PG4 (io), 20 ~{RESET} (in), 21 VCC (power), 22 GND (power), 23 XTAL2, 24 XTAL1, 25 PD0 (SCL/INT0) (io), 26 PD1 (SDA/INT1) (io), 27 PD2 (RXD1/INT2) (io), 28 PD3 (TXD1/INT3) (io), 29 PD4 (IC1) (io), 30 PD5 (XCK1) (io), 31 PD6 (T1) (io), 32 PD7 (T2) (io), 33 PG0 (~{WR}) (io), 34 PG1 (~{RD}) (io), 35 PC0 (A8) (io), 36 PC1 (A9) (io), 37 PC2 (A10) (io), 38 PC3 (A11) (io), 39 PC4 (A12) (io), 40 PC5 (A13) (io), 41 PC6 (A14) (io), 42 PC7 (A15) (io), 43 PG2 (ALE) (io), 44 PA7 (AD7) (io), 45 PA6 (AD6) (io), 46 PA5 (AD5) (io), 47 PA4 (AD4) (io), 48 PA3 (AD3) (io), 49 PA2 (AD2) (io), 50 PA1 (AD1) (io), 51 PA0 (AD0) (io), 52 VCC (power), 53 GND (power), 54 PF7 (ADC7/TDI) (io), 55 PF6 (ADC6/TDO) (io), 56 PF5 (ADC5/TMS) (io), 57 PF4 (ADC4/TCK) (io), 58 PF3 (ADC3) (io), 59 PF2 (ADC2) (io), 60 PF1 (ADC1) (io), 61 PF0 (ADC0) (io), 62 AREF, 63 GND (power), 64 AVCC (power)

## ATmega128L-8AI
designator IC?  value ATMEGA128L-8AU
8-Bit AVR Microcontroller with 128K Bytes of In-System Programmable Flash Memory; RefId: 9171126; Published: 17-Sep-2003; LatestRevisionDate: 13-Apr-2006; LatestRevisionNote: IPC-7351 Footprint Added.; DatasheetVersion: 2467G-AVR-09/02; PackageVersion: revB, Oct-2001; PackageReference: 64A; Publisher: Altium Limited; PackageDescription: 64-Pin Thin Quad Flat Pack 0.8 mm Pitch; Code_JEDEC: MS-026-AEB; ComponentLink1Description: Manufacturer Link; ComponentLink1URL: http://www.atmel.com; ComponentLink2Description: Datasheet; ComponentLink2URL: http://www.atmel.com/dyn/resources/prod_documents/doc2467.pdf; Supplier: Farnell
footprint 64A_N (Thin QFP, 64-Leads, Body 14x14mm, Pitch 0.8mm, IPC Medium Density)
footprint 64A_L (Thin QFP, 64-Leads, Body 14x14mm, Pitch 0.8mm, IPC High Density)
footprint 64A_M (Thin QFP, 64-Leads, Body 14x14mm, Pitch 0.8mm, IPC Low Density)
3D model ATMEGA128L-64A (64-Pin Thin Quad Flat Pack 0.8 mm Pitch)
pins: 1 ~{PEN} (in), 2 PE0 (RXD0/PDI) (io), 3 PE1 (TXD0/PDO) (io), 4 PE2 (XCK0/AIN0) (io), 5 PE3 (OC3A/AIN1) (io), 6 PE4 (OC3B/INT4) (io), 7 PE5 (OC3C/INT5) (io), 8 PE6 (T3/INT6) (io), 9 PE7 (IC3/INT7) (io), 10 PB0 (~{SS}) (io), 11 PB1 (SCK) (io), 12 PB2 (MOSI) (io), 13 PB3 (MISO) (io), 14 PB4 (OC0) (io), 15 PB5 (OC1A) (io), 16 PB6 (OC1B) (io), 17 PB7 (OC2/OC1C) (io), 18 TOSC2/PG3 (io), 19 TOSC1/1PG4 (io), 20 ~{RESET} (in), 21 VCC (power), 22 GND (power), 23 XTAL2, 24 XTAL1, 25 PD0 (SCL/INT0) (io), 26 PD1 (SDA/INT1) (io), 27 PD2 (RXD1/INT2) (io), 28 PD3 (TXD1/INT3) (io), 29 PD4 (IC1) (io), 30 PD5 (XCK1) (io), 31 PD6 (T1) (io), 32 PD7 (T2) (io), 33 PG0 (~{WR}) (io), 34 PG1 (~{RD}) (io), 35 PC0 (A8) (io), 36 PC1 (A9) (io), 37 PC2 (A10) (io), 38 PC3 (A11) (io), 39 PC4 (A12) (io), 40 PC5 (A13) (io), 41 PC6 (A14) (io), 42 PC7 (A15) (io), 43 PG2 (ALE) (io), 44 PA7 (AD7) (io), 45 PA6 (AD6) (io), 46 PA5 (AD5) (io), 47 PA4 (AD4) (io), 48 PA3 (AD3) (io), 49 PA2 (AD2) (io), 50 PA1 (AD1) (io), 51 PA0 (AD0) (io), 52 VCC (power), 53 GND (power), 54 PF7 (ADC7/TDI) (io), 55 PF6 (ADC6/TDO) (io), 56 PF5 (ADC5/TMS) (io), 57 PF4 (ADC4/TCK) (io), 58 PF3 (ADC3) (io), 59 PF2 (ADC2) (io), 60 PF1 (ADC1) (io), 61 PF0 (ADC0) (io), 62 AREF, 63 GND (power), 64 AVCC (power)

## ATmega128L-8AI_1
designator IC?, comment ATmega128L-8AI  value ATMEGA128L-8AU
8-Bit AVR Microcontroller with 128K Bytes of In-System Programmable Flash Memory; RefId: 9171126; Published: 17-Sep-2003; LatestRevisionDate: 13-Apr-2006; LatestRevisionNote: IPC-7351 Footprint Added.; DatasheetVersion: 2467G-AVR-09/02; PackageVersion: revB, Oct-2001; PackageReference: 64A; Publisher: Altium Limited; PackageDescription: 64-Pin Thin Quad Flat Pack 0.8 mm Pitch; Code_JEDEC: MS-026-AEB; ComponentLink1Description: Manufacturer Link; ComponentLink1URL: http://www.atmel.com; ComponentLink2Description: Datasheet; ComponentLink2URL: http://www.atmel.com/dyn/resources/prod_documents/doc2467.pdf; Supplier: Farnell
footprint 64A_N (Thin QFP, 64-Leads, Body 14x14mm, Pitch 0.8mm, IPC Medium Density)
footprint 64A_L (Thin QFP, 64-Leads, Body 14x14mm, Pitch 0.8mm, IPC High Density)
footprint 64A_M (Thin QFP, 64-Leads, Body 14x14mm, Pitch 0.8mm, IPC Low Density)
3D model ATMEGA128L-64A (64-Pin Thin Quad Flat Pack 0.8 mm Pitch)
pins: 1 ~{PEN} (in), 2 PE0 (RXD0/PDI) (io), 3 PE1 (TXD0/PDO) (io), 4 PE2 (XCK0/AIN0) (io), 5 PE3 (OC3A/AIN1) (io), 6 PE4 (OC3B/INT4) (io), 7 PE5 (OC3C/INT5) (io), 8 PE6 (T3/INT6) (io), 9 PE7 (IC3/INT7) (io), 10 PB0 (~{SS}) (io), 11 PB1 (SCK) (io), 12 PB2 (MOSI) (io), 13 PB3 (MISO) (io), 14 PB4 (OC0) (io), 15 PB5 (OC1A) (io), 16 PB6 (OC1B) (io), 17 PB7 (OC2/OC1C) (io), 18 TOSC2/PG3 (io), 19 TOSC1/1PG4 (io), 20 ~{RESET} (in), 21 VCC (power), 22 GND (power), 23 XTAL2, 24 XTAL1, 25 PD0 (SCL/INT0) (io), 26 PD1 (SDA/INT1) (io), 27 PD2 (RXD1/INT2) (io), 28 PD3 (TXD1/INT3) (io), 29 PD4 (IC1) (io), 30 PD5 (XCK1) (io), 31 PD6 (T1) (io), 32 PD7 (T2) (io), 33 PG0 (~{WR}) (io), 34 PG1 (~{RD}) (io), 35 PC0 (A8) (io), 36 PC1 (A9) (io), 37 PC2 (A10) (io), 38 PC3 (A11) (io), 39 PC4 (A12) (io), 40 PC5 (A13) (io), 41 PC6 (A14) (io), 42 PC7 (A15) (io), 43 PG2 (ALE) (io), 44 PA7 (AD7) (io), 45 PA6 (AD6) (io), 46 PA5 (AD5) (io), 47 PA4 (AD4) (io), 48 PA3 (AD3) (io), 49 PA2 (AD2) (io), 50 PA1 (AD1) (io), 51 PA0 (AD0) (io), 52 VCC (power), 53 GND (power), 54 PF7 (ADC7/TDI) (io), 55 PF6 (ADC6/TDO) (io), 56 PF5 (ADC5/TMS) (io), 57 PF4 (ADC4/TCK) (io), 58 PF3 (ADC3) (io), 59 PF2 (ADC2) (io), 60 PF1 (ADC1) (io), 61 PF0 (ADC0) (io), 62 AREF, 63 GND (power), 64 AVCC (power)

## BAT54A.1
designator D?, comment BAT54A-G
Schottky Barrier Double Diode; PKG_TYPE: SOT23; PACKAGE_INFORMATION: Latest Revision: May-1999; DEVICE: BAT54A-G; PUBLISHED: 17-Sep-2003; DATASHEET: Latest Revision: 4-Mar-2002; PACKAGE_REFERENCE: SOT23; PUBLISHER: Altium Limited; Value: BAT54A-G; Distributor1 PN: 641-1319-1-ND; Distributor1: Digikey
footprint SOT23
pins: 1 K1 (in), 2 K2 (in), 3 A (in)

## BSS84-7-F
designator Q?, comment MANF_P/N: BSS84-7-F  (hidden comment: FET-3PIN)
P-Channel Logic Level Enhancement Mode Field Effect Transistor; PKG_TYPE: SOT-23; MANF: Diodes Inc.; Value: BSS84-7-F; DEVICE: FET-3PIN; Distributor1 PN: BSS84-FDICT-ND; Distributor1: Digikey
footprint SOT95P230X110-3N (SOT23, 3 pin, Pitch 0.95mm - 1.3mm W X 2.9mm L X 1.1mm H, IPC Medium Density)
pins: 1 GATE, 2 SOURCE, 3 DRAIN

## Cap
designator C?  value 100nF
Capacitor; Manufacturer1: Phycomp; TC: X7R; Tolerance: ±10%; Voltage: 16V; Published: 8-Jun-2000; LatestRevisionDate: 17-Jul-2002; LatestRevisionNote: Re-released for DXP Platform.; PackageReference: RAD-0.3; Publisher: Altium Limited; Manufacturer1 PN: *; Distributor1: Digikey; Distributor1 PN: *; Case: 0402
footprint CC1005-0402
footprint CC1608-0603
footprint CC2012-0805
footprint CC3216-1206
pins: 1, 2

## Cap Pol1
designator C?  value 330uF
Polarized Capacitor Tantalum; Manufacturer1: Kemet; Tolerance: ±10%; Voltage: 6.3V; ESR: 25mOhm; Published: 8-Jun-2000; LatestRevisionDate: 17-Jul-2002; LatestRevisionNote: Re-released for DXP Platform.; PackageReference: RB7.6-15; Publisher: Altium Limited; Case: 2917; Distributor1: Digikey; Manufacturer1 PN: *; Distributor1 PN: *; TC: Tantalum
footprint RB7.6-15 (Polarized Capacitor (Radial); 2 Leads)
footprint HA-C1 (Capacitor, Radial, Tantalum; Body 1.7 x 2.8 mm (Dia.xH max); Pin Spacing 1.27 mm (typ))
footprint A (Capacitor, Electrolytic, Radial; Body 4 x 5 mm (Dia.xH typ); Pin Spacing 1.5 mm (typ))
footprint B (Capacitor, Electrolytic, Radial; Body 5 x 6.8 mm (Dia.xH typ); Pin Spacing 2 mm (typ))
footprint CAPPR5-5x5 (Capacitor, Electrolytic, Radial; Body 5 x 5 mm (Dia.xH typ); Pin Spacing 5 mm (typ))
footprint CAPPR7.5-16x35 (Capacitor, Electrolytic, Radial; Body 16 x 35 mm (Dia.xH typ); Pin Spacing 7.5 mm (typ))
simulation model CAP (Capacitor)
signal-integrity model Cap Pol
footprint D (Capacitor, SM Tantalum; Body 7.3 x 4.3 mm (LxW typ))
pins: 1, 2
1 alternate drawing of the same symbol

## CDCLVD110A
designator IC?
TI LVDS 1:10 fanout
footprint QFP80P900X900-32M (32-Pin Quad Flat Pack 0.8 mm Pitch)
part A pins: 1 CK (in), 2 SI (in), 3 CLK0 (in), 4 ~{CLK0} (in), 5 CLK0 (in) hidden, 5 Vbb (out), 6 CLK1 (in), 7 ~{CLK1} (in), 8 EN (in), 10 ~{Q0} (out), 11 Q0 (out), 12 ~{Q1} (out), 13 Q1 (out), 14 ~{Q2} (out), 15 Q2 (out), 17 ~{Q3} (out), 18 Q3 (out), 19 ~{Q4} (out), 20 Q4 (out), 21 ~{Q5} (out), 22 Q5 (out), 23 ~{Q6} (out), 24 Q6 (out), 26 ~{Q7} (out), 27 Q7 (out), 28 ~{Q8} (out), 29 Q8 (out), 30 ~{Q9} (out), 31 Q9 (out)
part B pins: 9 GND (power), 16 VDD (power), 25 GND (power), 32 VDD (power)

## CDCM61001
designator IC?
One Output, Integrated VCO, Low-Jitter Clock Generator
footprint QFN32_POWERPAD
part A pins: 5 OUTN (out), 6 OUTP (out), 7 CE (in), 10 OS1 (in), 11 OS0 (in), 12 ~{RSTN} (in), 13 OD0 (in), 14 OD1 (in), 15 OD2 (in), 17 REG_CAP2, 19 REG_CAP1, 21 XIN (in), 23 OSC_OUT (out), 25 PR0 (in), 26 PR1 (in)
part B pins: 1 VCC_OUT (power), 4 VCC_OUT (power), 9 VCC_VCO (power), 16 VCC_PLL2 (power), 18 VCC_PLL1 (power), 20 VCC_IN (power), 22 GND1 (power), 27 VCC_OUT (power), 30 VCC_OUT (power), PAD GND (power)

## CDCM61002
designator IC?, comment CDCM61002RHBT
Low Jitter Clock Generator, Two Outpust, Integrated VCO; Manufacturer: Texas Instruments; Value: CDCM61002RHBT; Distributor1: Digikey; Distributor1 PN: 296-24193-1-ND
footprint QFN32_POWERPAD
footprint QFN32_POWERPAD
part A pins: 2 OUTN1 (out), 3 OUTP1 (out), 5 OUTN0 (out), 6 OUTP0 (out), 7 CE (in), 10 OS1 (in), 11 OS0 (in), 12 ~{RSTN} (in), 13 OD0 (in), 14 OD1 (in), 15 OD2 (in), 17 REG_CAP2, 19 REG_CAP1, 21 XIN (in), 23 OSC_OUT (out), 25 PR0 (in), 26 PR1 (in)
part B pins: 1 VCC_OUT (power), 4 VCC_OUT (power), 9 VCC_VCO (power), 16 VCC_PLL2 (power), 18 VCC_PLL1 (power), 20 VCC_IN (power), 22 GND1 (power), 27 VCC_OUT (power), 30 VCC_OUT (power), PAD GND (power)

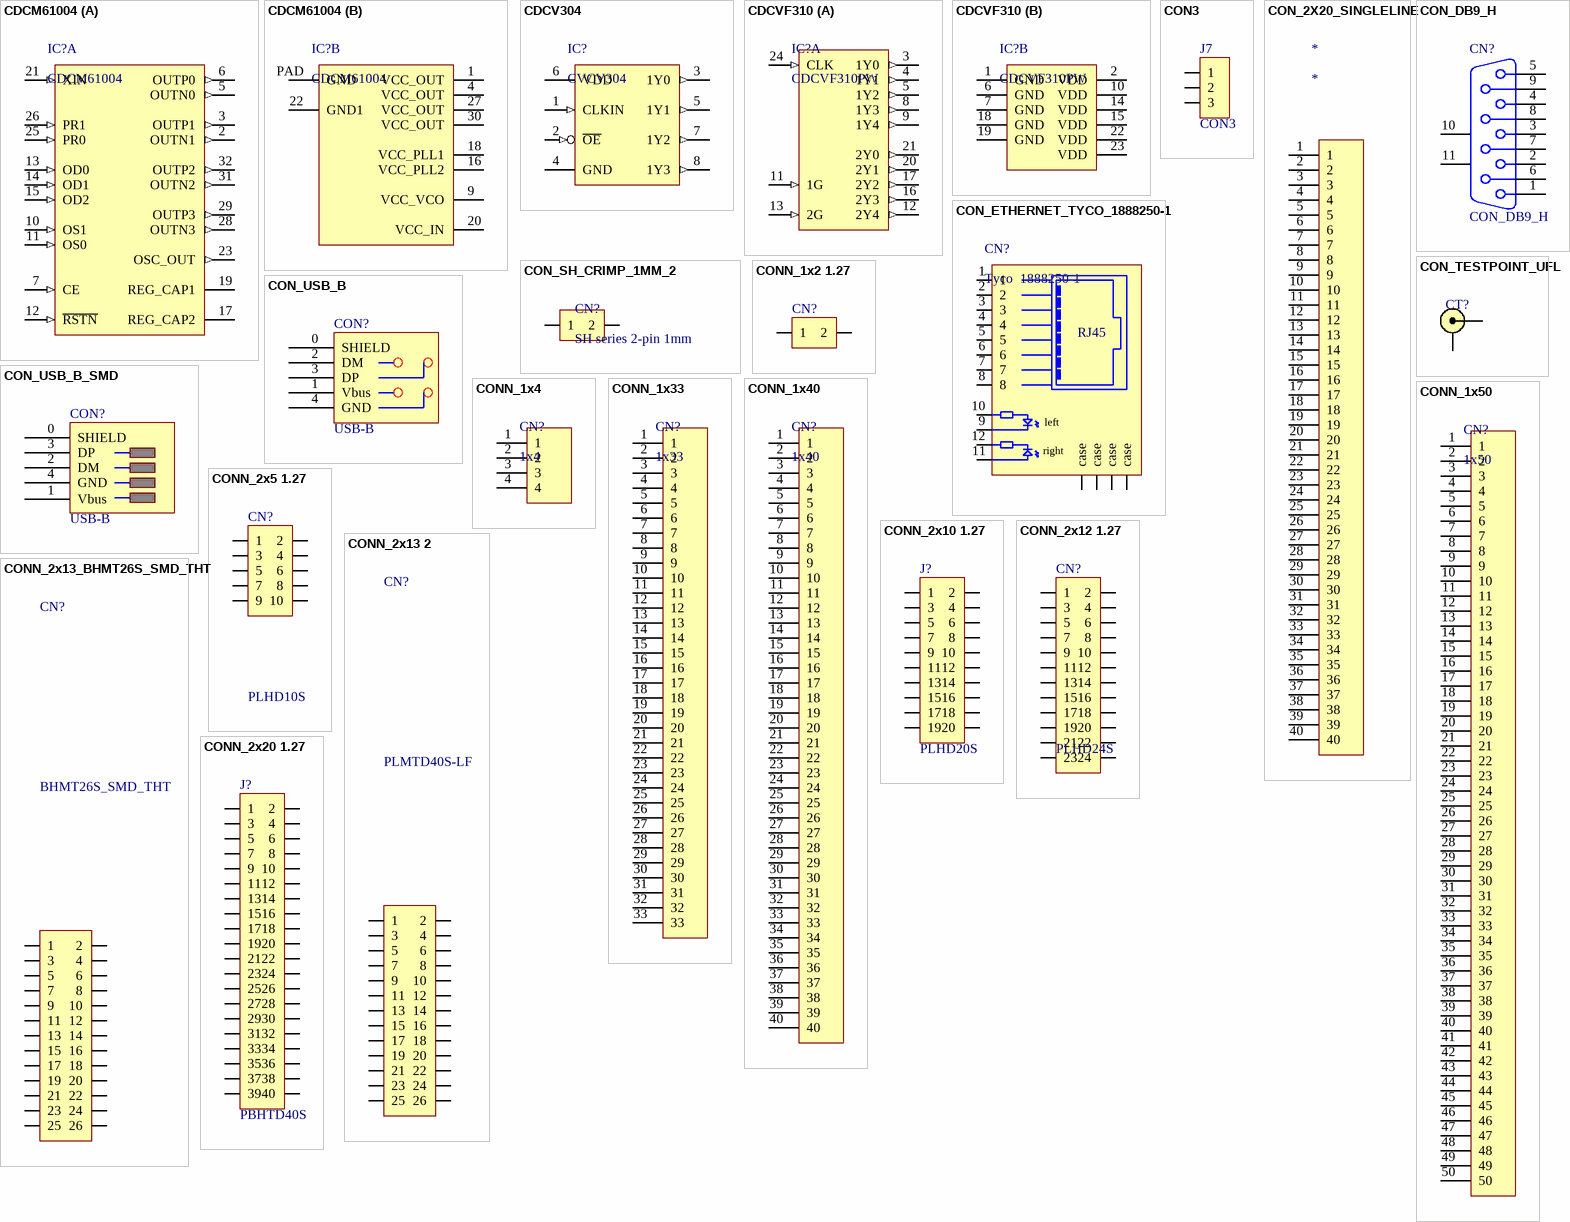
[diagram p6: symbols CDCM61004 to CONN_2x20 1.27]

## CDCM61004
designator IC?
PLL generator with 1:4 fanout; Manufacturer1: Texas Instruments; Manufacturer1 PN: CDCM61004RHBT; Distributor1: Digikey; Distributor1 PN: 296-24194-1-ND
footprint QFN32_POWERPAD
part A pins: 2 OUTN1 (out), 3 OUTP1 (out), 5 OUTN0 (out), 6 OUTP0 (out), 7 CE (in), 10 OS1 (in), 11 OS0 (in), 12 ~{RSTN} (in), 13 OD0 (in), 14 OD1 (in), 15 OD2 (in), 17 REG_CAP2, 19 REG_CAP1, 21 XIN (in), 23 OSC_OUT (out), 25 PR0 (in), 26 PR1 (in), 28 OUTN3 (out), 29 OUTP3 (out), 31 OUTN2 (out), 32 OUTP2 (out)
part B pins: 1 VCC_OUT (power), 4 VCC_OUT (power), 9 VCC_VCO (power), 16 VCC_PLL2 (power), 18 VCC_PLL1 (power), 20 VCC_IN (power), 22 GND1 (power), 27 VCC_OUT (power), 30 VCC_OUT (power), PAD GND (power)

## CDCV304
designator IC?, comment CVCV304
1:4 LVTTL fanout
footprint TSOP65P490-8AM (TSOP, 8-Leads, Body 3x3mm, Pitch 0.65mm, IPC Low Density)
pins: 1 CLKIN (in), 2 ~{OE} (in), 3 1Y0 (out), 4 GND (power), 5 1Y1 (out), 6 VDD (power), 7 1Y2 (out), 8 1Y3 (out)

## CDCVF310
designator IC?, comment CDCVF310PW
1:10 LVTTL/LVCMOS clock fanout
footprint TSOP65P640-24AL (TSOP, 24-Leads, Body 7.8x4.4mm, Pitch 0.65mm, IPC High Density)
part A pins: 3 1Y0 (out), 4 1Y1 (out), 5 1Y2 (out), 8 1Y3 (out), 9 1Y4 (out), 11 1G (in), 12 2Y4 (out), 13 2G (in), 16 2Y3 (out), 17 2Y2 (out), 20 2Y1 (out), 21 2Y0 (out), 24 CLK (in)
part B pins: 1 GND (power), 2 VDD (power), 6 GND (power), 7 GND (power), 10 VDD (power), 14 VDD (power), 15 VDD (power), 18 GND (power), 19 GND (power), 22 VDD (power), 23 VDD (power)

## CON3
designator J7
Connector; Manufacturer1: Molex; Distributor1: Digikey; Distributor1 PN: WM4112-ND; Manufacturer1 PN: 22-27-2031
footprint SIP3POW
footprint tb7503s (3x terminal block 7.55mm 16A (Maritex))
footprint tb5003s (3x terminal block (16A,250V) 5mm (maritex))
footprint MOLEX_22-11-2032 (CONN HEADER 3POS .100 VERT GOLD)
pins: 1, 2, 3
2 alternate drawings of the same symbol

## CON_2X20_SINGLELINE
designator *
pins: 1, 2, 3, 4, 5, 6, 7, 8, 9, 10, 11, 12, 13, 14, 15, 16, 17, 18, 19, 20, 21, 22, 23, 24, 25, 26, 27, 28, 29, 30, 31, 32, 33, 34, 35, 36, 37, 38, 39, 40

## CON_DB9_H
designator CN?
Receptacle Assembly, 9 Position, Right Angle; Manufacturer: Generic Components; Package Information: Latest Revision: O; Class I: Connector; Positions: 9; RefId: 1263551; Value: MOLEX - 0836119006; Published: 15-Jun-2001; Revision: July-2002: Re-released for DXP Platform.; Datasheet: (1-Sep-1999); Package Reference: 788750; Publisher: Altium Limited; Orientation: Right Angle; Gender: Receptacle; Supplier: Farnell
footprint DB9_H_FEMALE
footprint DB9_H_FEMALE_screw
footprint DB9_H_MALE
footprint DSUB_MINI_9
pins: 1, 2, 3, 4, 5, 6, 7, 8, 9, 10 MH1, 11 MH2

## CON_ETHERNET_TYCO_1888250-1
designator CN?, comment Tyco  1888250-1
low profile uTCA Ethernet jack (RJ45); RefId: Mouser/571-1888250-1
footprint TYCO_ETHERNET_1888250-1
pins: 0 case, 0 case, 0 case, 0 case, 1, 2, 3, 4, 5, 6, 7, 8, 9 D2, 10 D1, 11 D4, 12 D3
text: RJ45; left; right

## CON_SH_CRIMP_1MM_2
designator CN?, comment SH series 2-pin 1mm
RefId: Far/1679127
footprint SH_CRIMP_1MM_2
pins: 1, 2

## CON_TESTPOINT_UFL
designator CT?  (value not drawn)
UFL connector testpoint
footprint CON_UFL_HIROSE_RECEPTACLE
pins: 1, 2

## CON_USB_B
designator CON?, comment USB-B
USB Receptacle Type B Right Angle; Value: 292304-1; Distributor1 PN: A31725-ND; Distributor1: Digikey
footprint MOLEX_USB_VERT
footprint USBB-G ((TME))
footprint USBB_EDGE ((TME))
footprint USB_VERT
pins: 0 SHIELD, 1 Vbus, 2 DM, 3 DP, 4 GND
2 alternate drawings of the same symbol

## CON_USB_B_SMD
designator CON?, comment USB-B
USB Receptacle Type B Right Angle SMD; Value: 1734346-1; Distributor1 PN: 1321918; Distributor1: Farnell
footprint USB-B-SMD
pins: 0 SHIELD, 1 Vbus, 2 DM, 3 DP, 4 GND
2 alternate drawings of the same symbol

## CONN_1x2 1.27
designator CN?
1.27 mm dual row goldpin; Value: xxx
footprint con_1x2_1.27
pins: 1, 2
2 alternate drawings of the same symbol

## CONN_1x4
designator CN?, comment 1x4
pins: 1, 2, 3, 4

## CONN_1x33
designator CN?, comment 1x33
pins: 1, 2, 3, 4, 5, 6, 7, 8, 9, 10, 11, 12, 13, 14, 15, 16, 17, 18, 19, 20, 21, 22, 23, 24, 25, 26, 27, 28, 29, 30, 31, 32, 33

## CONN_1x40
designator CN?, comment 1x40
pins: 1, 2, 3, 4, 5, 6, 7, 8, 9, 10, 11, 12, 13, 14, 15, 16, 17, 18, 19, 20, 21, 22, 23, 24, 25, 26, 27, 28, 29, 30, 31, 32, 33, 34, 35, 36, 37, 38, 39, 40